# Altium schematic symbol library En.SCHLIB: 250 symbols (part 2 of 5)
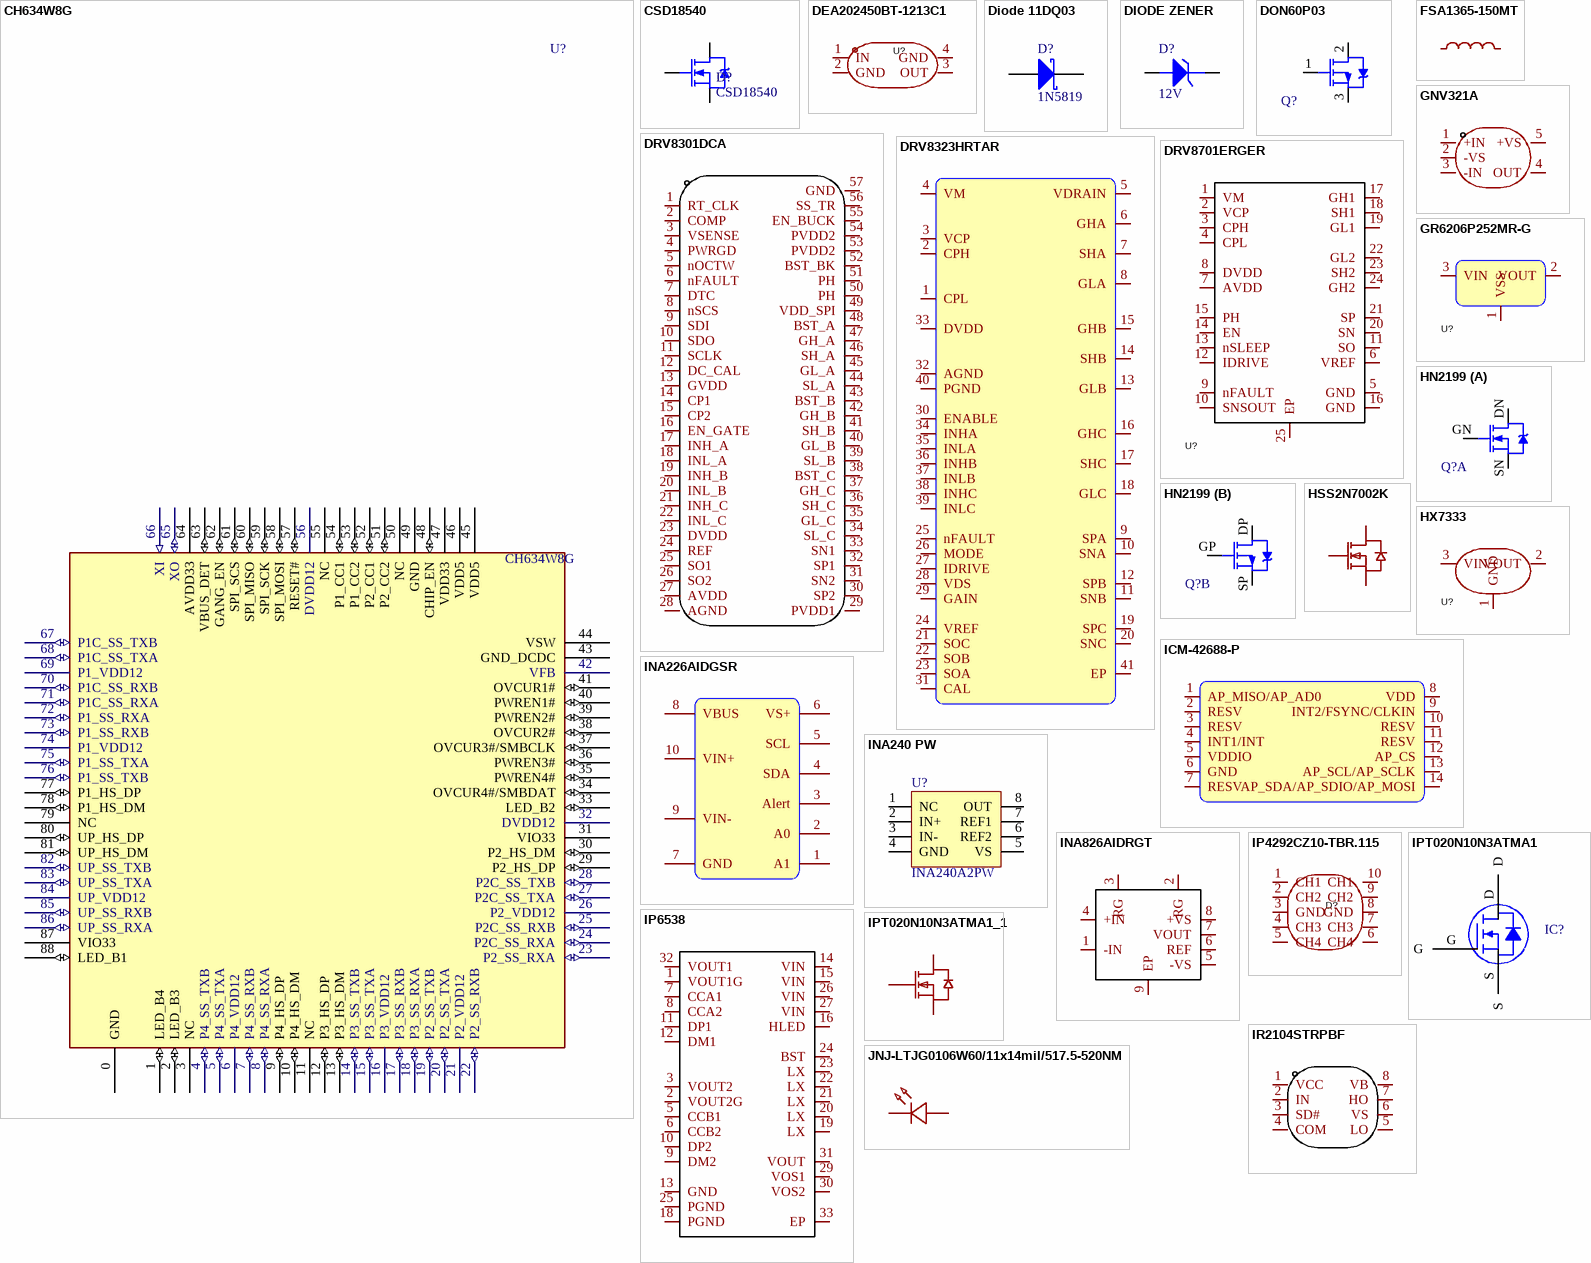
[diagram p20: symbols CH634W8G to JNJ-LTJG0106W60/11x14mil/517.5-520NM]

## IP4292CZ10-TBR.115
designator D?  (value not drawn)
4通道TVS，3.3V; Manufacturer: ElecSuper(静芯微); Add into BOM: yes; polarity: 单向; Reverse Stand-Off Voltage (Vrwm): 3.3V; Maximum Clamping Voltage: 5V; Peak Pulse Current (Ipp): 8A; Peak Pulse Power Dissipation (Ppp): 40W; Reverse Leakage Current (Ir): 100nA; Number of Lines: 四路; Type: ESD; Symbol: IP4292CZ10-TBR.115; Device: IP4292CZ10-TBR.115; LCSC Part Name: ESD/TVS 静电防护二极管; Supplier Part: C39832202; Manufacturer Part: IP4292CZ10-TBR.115; Supplier Footprint: DFN2510-10L; JLCPCB Part Class: Extended Part; Datasheet: https://atta.szlcsc.com/upload/public/pdf/source/20240807/15E28ED9AFBC6FFDA2C5CF98CAC988DA.pdf; Supplier: LCSC; Convert to PCB: yes
footprint DFN2510A-10_L2.5-W1.0-P0.50-BL
3D model DFN2510A-10_L2.5-W1.0-H0.5-P0.50-BL
pins: 1 CH1, 2 CH2, 3 GND, 4 CH3, 5 CH4, 6 CH4, 7 CH3, 8 GND, 9 CH2, 10 CH1

## IP6538
designator U?  (value not drawn)
Manufacturer: INJOINIC(英集芯); Add into BOM: yes; Symbol: IP6538; Device: IP6538; LCSC Part Name: IP6538; Supplier Part: C515679; Manufacturer Part: IP6538; Supplier Footprint: QFN-32-EP(5x5); JLCPCB Part Class: Extended Part; Datasheet: https://atta.szlcsc.com/upload/public/pdf/source/20200610/C515679_FB79CA4FD1661A0547DF6276FB7EE412.pdf; Supplier: LCSC; Convert to PCB: yes
footprint QFN-32_L5.0-W5.0-P0.50-BL-EP3.7
3D model QFN-32_L5.0-W5.0-H0.8-P0.50-BL-EP3.7
pins: 1 VOUT1G, 2 VOUT2G, 3 VOUT2, 5 CCB1, 6 CCB2, 7 CCA1, 8 CCA2, 9 DM2, 10 DP2, 11 DP1, 12 DM1, 13 GND, 14 VIN, 15 VIN, 16 HLED, 18 PGND, 19 LX, 20 LX, 21 LX, 22 LX, 23 LX, 24 BST, 25 PGND, 26 VIN, 27 VIN, 29 VOS1, 30 VOS2, 31 VOUT, 32 VOUT1, 33 EP

## IPT020N10N3ATMA1
designator IC?  (value not drawn)
N沟道MOSFET N-CH 100V 300A 8HSOF; Manufacturer: Infineon Technologies; Rds On (Max) at Id, Vgs: 2 mOhm @ 150A, 10V; Vgs(th) (Max) at Id: 3.5V @ 272uA; Gate Charge (Qg): 156nC @ 10V; Input Capacitance (Ciss) at Vds: 11200pF @ 50V; Power - Max: 375W; Current Continuous Drain: 300A (Tc); Part Number: IPT020N10N3ATMA1; PartId: 7970; Supplier 1: Digi-Key; Supplier Part Number 1: IPT020N10N3ATMA1TR-ND; ComponentLink1Description: Datasheet; ComponentLink1URL: http://www.infineon.com/dgdl/IPT020N10N3_Rev1.1.pdf?folderId=db3a304313b8b5a60113cee8763b02d7&fileId=db3a30433e9d5d11013e9e58035b0158; ComponentLink2Description: Digi-Key Listing; ComponentLink2URL: http://www.digikey.com/product-detail/en/IPT020N10N3ATMA1/IPT020N10N3ATMA1TR-ND/4571872; Price: 3.3442; Type: MOSFET N-Channel, Metal Oxide; Device Package: 8-PowerSFN; Drain to Source Voltage (Vdss): 100V; Features: Standard
footprint INFINEON PG-HSOF-8-1
pins: D, G, S

## IPT020N10N3ATMA1_1
designator Q?, comment IPT020N10N3ATMA1  (value not drawn)
Manufacturer: Infineon(英飞凌); Add into BOM: yes; Type: 1个N沟道; Drain Source Voltage (Vdss): 100V; Continuous Drain Current (Id): 300A; Drain Source On Resistance (RDS(on)@Vgs,Id): 2mΩ@10V,150A; Power Dissipation (Pd): 375W; Gate Threshold Voltage (Vgs(th)@Id): 3.5V@272uA; Total Gate Charge (Qg@Vgs): 207nC@10V; Input Capacitance (Ciss@Vds): 14.896nF@50V; Reverse Transfer Capacitance (Crss@Vds): 138pF@50V; Symbol: IPT020N10N3ATMA1; Device: IPT020N10N3ATMA1; LCSC Part Name: 1个N沟道 耐压:100V 电流:300A; Supplier Part: C6062371; Manufacturer Part: IPT020N10N3ATMA1; Supplier Footprint: HSOF-8; JLCPCB Part Class: Extended Part; Datasheet: https://atta.szlcsc.com/upload/public/pdf/source/20200522/C531201_F3EF8EA3E06D36D9999157C58619309F.pdf; Supplier: LCSC; Convert to PCB: yes; Operating Temperature: -55℃~+175℃
footprint PG-HSOF-8-1_L10.4-W9.9-P1.2-LS11.7-TL
3D model PG-HSOF-8-1_L10.4-W9.9-H2.3-P1.2-LS11.7-TL
pins: 1 G, 2 S, 3 D

## IR2104STRPBF
designator U?  (value not drawn)
栅极驱动器; Manufacturer: Infineon(英飞凌); Add into BOM: yes; Driven Configuration: 半桥; Load Type: MOSFET；IGBT; Number of Drivers: 2; Peak Output Current(sink): 360mA; Peak Output Current(source): 210mA; Supply Voltage: 10V~20V; Rise Time: 100ns; Fall Time: 50ns; Symbol: IR2104STRPBF; Device: IR2104STRPBF; Supplier: LCSC; Manufacturer Part: IR2104STRPBF; Supplier Part: C2960; JLCPCB Part Class: Extended Part; LCSC Part Name: IR2104STRPBF; Supplier Footprint: SOIC-8; Datasheet: https://atta.szlcsc.com/upload/public/pdf/source/20140906/1457707236579.pdf; Convert to PCB: yes; Operating Temperature: -40℃~+150℃@(Tj)
footprint SOIC-8_L4.9-W3.9-P1.27-LS6.0-BL
pins: 1 VCC, 2 IN, 3 SD#, 4 COM, 5 LO, 6 VS, 7 HO, 8 VB

## JNJ-LTJG0106W60/11x14mil/517.5-520NM
designator U?  (value not drawn)
Manufacturer: JNJ OPTOELECTRONICS(强生光电); Add into BOM: yes; Emitted Color: 绿色; Forward Voltage (VF): 2.8V~3.4V; Forward Current: 20mA; Dominant Wavelength: 520nm~530nm; Lens Color: 无色透明透镜; Luminous Intensity: 5300mcd; Viewing Angle: 60°; Symbol: JNJ-LTJG0106W60/11X14MIL/517.5-520NM; Device: JNJ-LTJG0106W60/11x14mil/517.5-520NM; LCSC Part Name: JNJ-LTJG0106W60/11x14mil/517.5-520NM; Supplier Part: C7500149; Manufacturer Part: JNJ-LTJG0106W60/11x14mil/517.5-520NM; Supplier Footprint: SMD2835; JLCPCB Part Class: Extended Part; Datasheet: https://atta.szlcsc.com/upload/public/pdf/source/20230914/95F7BDB426399AB30557EC122CC3B74E.pdf; Supplier: LCSC; Convert to PCB: yes; Operating Temperature: -40℃~+100℃
footprint LED-SMD_L3.5-W2.8-R-RD_GREEN-1
pins: 1 A, 2 K

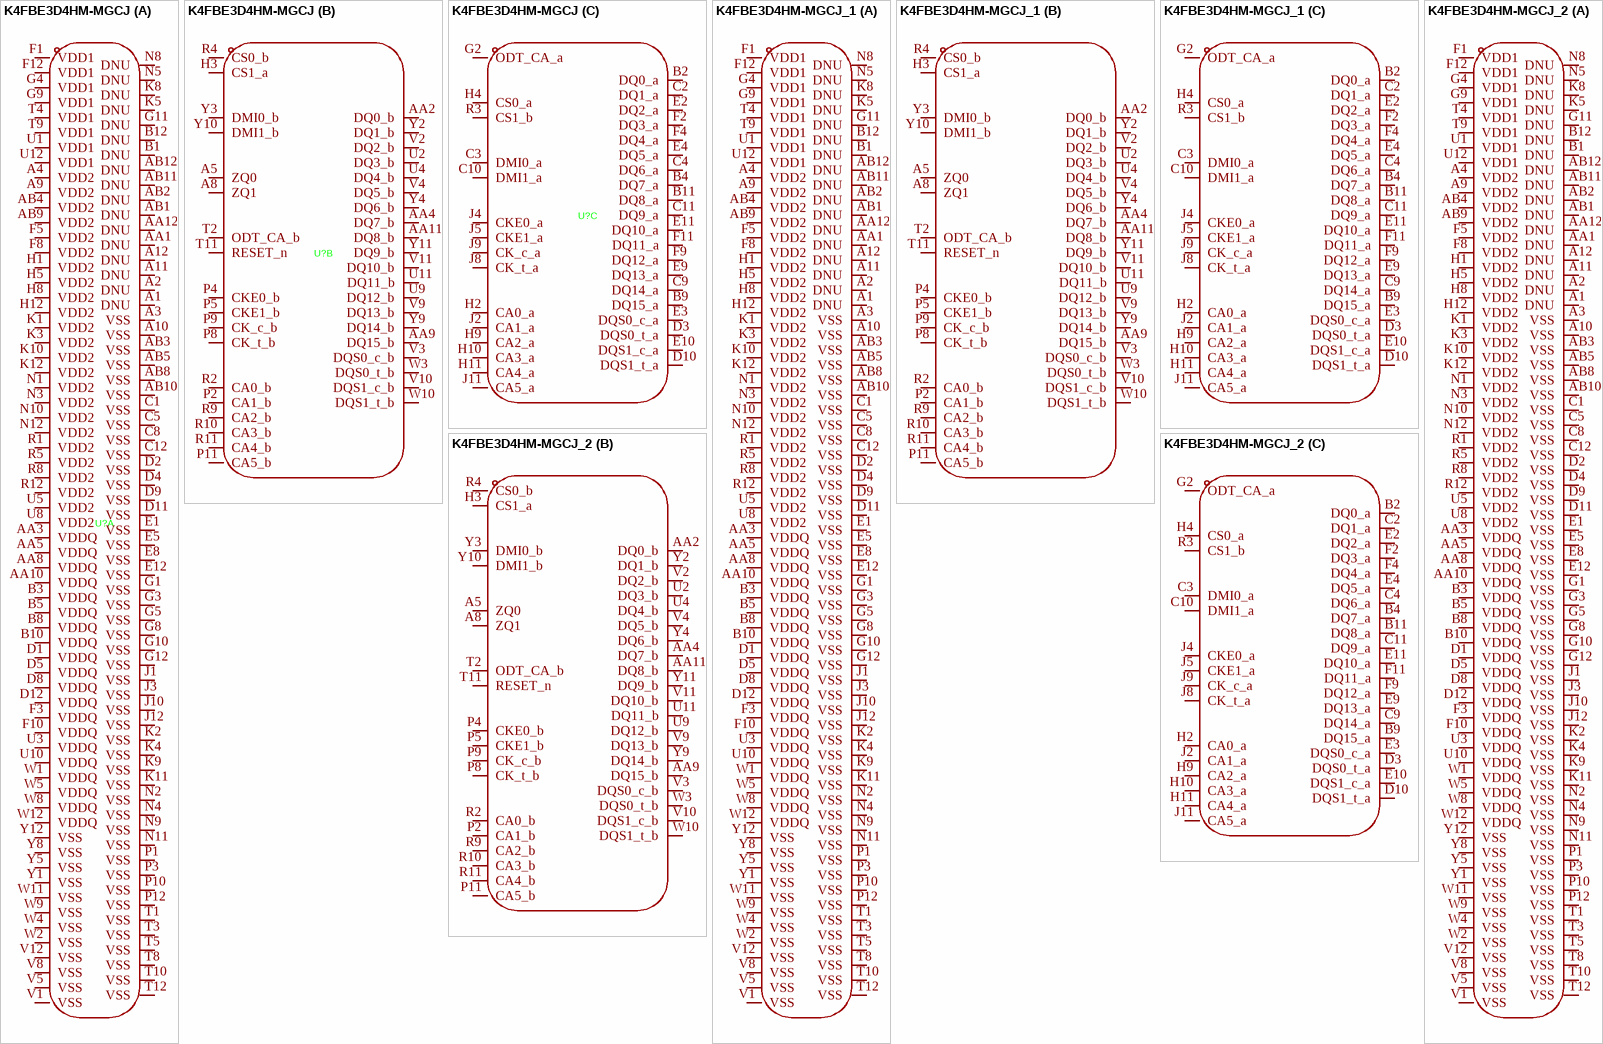
[diagram p3: symbols K4FBE3D4HM-MGCJ to K4FBE3D4HM-MGCJ_2]

## K4FBE3D4HM-MGCJ
designator U?  (value not drawn)
LPDDR4; Manufacturer: SAMSUNG(三星半导体); Add into BOM: yes; Symbol: K4FBE3D4HM-MGCJ; Device: K4FBE3D4HM-MGCJ; LCSC Part Name: K4FBE3D4HM-MGCJ; Supplier Part: C19188580; Manufacturer Part: K4FBE3D4HM-MGCJ; Supplier Footprint: BGA-200; JLCPCB Part Class: Extended Part; Datasheet: https://atta.szlcsc.com/upload/public/pdf/source/20231103/981B4612FCF3C7007EAF85DA2D47B66F.pdf; Supplier: LCSC; Convert to PCB: yes
footprint FBGA-200_L15.0-W10.0-BL_K4F6E3S4HM
3D model FBGA-200_L15.0-W10.0-BL_K4F6E3S4HM
part A pins: A1 DNU, A2 DNU, A3 VSS, A4 VDD2, A9 VDD2, A10 VSS, A11 DNU, A12 DNU, AA1 DNU, AA3 VDDQ, AA5 VDDQ, AA8 VDDQ, AA10 VDDQ, AA12 DNU, AB1 DNU, AB2 DNU, AB3 VSS, AB4 VDD2, AB5 VSS, AB8 VSS, AB9 VDD2, AB10 VSS, AB11 DNU, AB12 DNU, B1 DNU, B3 VDDQ, B5 VDDQ, B8 VDDQ, B10 VDDQ, B12 DNU, C1 VSS, C5 VSS, C8 VSS, C12 VSS, D1 VDDQ, D2 VSS, D4 VSS, D5 VDDQ, D8 VDDQ, D9 VSS, D11 VSS, D12 VDDQ, E1 VSS, E5 VSS, E8 VSS, E12 VSS, F1 VDD1, F3 VDDQ, F5 VDD2, F8 VDD2, F10 VDDQ, F12 VDD1, G1 VSS, G3 VSS, G4 VDD1, G5 VSS, G8 VSS, G9 VDD1, G10 VSS, G11 DNU, G12 VSS, H1 VDD2, H5 VDD2, H8 VDD2, H12 VDD2, J1 VSS, J3 VSS, J10 VSS, J12 VSS, K1 VDD2, K2 VSS, K3 VDD2, K4 VSS, K5 DNU, K8 DNU, K9 VSS, K10 VDD2, K11 VSS, K12 VDD2, N1 VDD2, N2 VSS, N3 VDD2, N4 VSS, N5 DNU, N8 DNU, N9 VSS, N10 VDD2, N11 VSS, N12 VDD2, P1 VSS, P3 VSS, P10 VSS, P12 VSS, R1 VDD2, R5 VDD2, R8 VDD2, R12 VDD2, T1 VSS, T3 VSS, T4 VDD1, T5 VSS, T8 VSS, T9 VDD1, T10 VSS, T12 VSS, U1 VDD1, U3 VDDQ, U5 VDD2, U8 VDD2, U10 VDDQ, U12 VDD1, V1 VSS, V5 VSS, V8 VSS, V12 VSS, W1 VDDQ, W2 VSS, W4 VSS, W5 VDDQ, W8 VDDQ, W9 VSS, W11 VSS, W12 VDDQ, Y1 VSS, Y5 VSS, Y8 VSS, Y12 VSS
part B pins: A5 ZQ0, A8 ZQ1, AA2 DQ0_b, AA4 DQ7_b, AA9 DQ15_b, AA11 DQ8_b, H3 CS1_a, P2 CA1_b, P4 CKE0_b, P5 CKE1_b, P8 CK_t_b, P9 CK_c_b, P11 CA5_b, R2 CA0_b, R4 CS0_b, R9 CA2_b, R10 CA3_b, R11 CA4_b, T2 ODT_CA_b, T11 RESET_n, U2 DQ3_b, U4 DQ4_b, U9 DQ12_b, U11 DQ11_b, V2 DQ2_b, V3 DQS0_c_b, V4 DQ5_b, V9 DQ13_b, V10 DQS1_c_b, V11 DQ10_b, W3 DQS0_t_b, W10 DQS1_t_b, Y2 DQ1_b, Y3 DMI0_b, Y4 DQ6_b, Y9 DQ14_b, Y10 DMI1_b, Y11 DQ9_b
part C pins: B2 DQ0_a, B4 DQ7_a, B9 DQ15_a, B11 DQ8_a, C2 DQ1_a, C3 DMI0_a, C4 DQ6_a, C9 DQ14_a, C10 DMI1_a, C11 DQ9_a, D3 DQS0_t_a, D10 DQS1_t_a, E2 DQ2_a, E3 DQS0_c_a, E4 DQ5_a, E9 DQ13_a, E10 DQS1_c_a, E11 DQ10_a, F2 DQ3_a, F4 DQ4_a, F9 DQ12_a, F11 DQ11_a, G2 ODT_CA_a, H2 CA0_a, H4 CS0_a, H9 CA2_a, H10 CA3_a, H11 CA4_a, J2 CA1_a, J4 CKE0_a, J5 CKE1_a, J8 CK_t_a, J9 CK_c_a, J11 CA5_a, R3 CS1_b

## K4FBE3D4HM-MGCJ_1
designator U?, comment K4FBE3D4HM-MGCJ  (value not drawn)
Manufacturer: SAMSUNG(三星半导体); Add into BOM: yes; Symbol: K4FBE3D4HM-MGCJ; Device: K4FBE3D4HM-MGCJ; LCSC Part Name: K4FBE3D4HM-MGCJ; Supplier Part: C19188580; Manufacturer Part: K4FBE3D4HM-MGCJ; Supplier Footprint: BGA-200; JLCPCB Part Class: Extended Part; Datasheet: https://atta.szlcsc.com/upload/public/pdf/source/20231103/981B4612FCF3C7007EAF85DA2D47B66F.pdf; Supplier: LCSC; Convert to PCB: yes
footprint FBGA-200_L15.0-W10.0-BL_K4F6E3S4HM
3D model FBGA-200_L15.0-W10.0-BL_K4F6E3S4HM
part A pins: A1 DNU, A2 DNU, A3 VSS, A4 VDD2, A9 VDD2, A10 VSS, A11 DNU, A12 DNU, AA1 DNU, AA3 VDDQ, AA5 VDDQ, AA8 VDDQ, AA10 VDDQ, AA12 DNU, AB1 DNU, AB2 DNU, AB3 VSS, AB4 VDD2, AB5 VSS, AB8 VSS, AB9 VDD2, AB10 VSS, AB11 DNU, AB12 DNU, B1 DNU, B3 VDDQ, B5 VDDQ, B8 VDDQ, B10 VDDQ, B12 DNU, C1 VSS, C5 VSS, C8 VSS, C12 VSS, D1 VDDQ, D2 VSS, D4 VSS, D5 VDDQ, D8 VDDQ, D9 VSS, D11 VSS, D12 VDDQ, E1 VSS, E5 VSS, E8 VSS, E12 VSS, F1 VDD1, F3 VDDQ, F5 VDD2, F8 VDD2, F10 VDDQ, F12 VDD1, G1 VSS, G3 VSS, G4 VDD1, G5 VSS, G8 VSS, G9 VDD1, G10 VSS, G11 DNU, G12 VSS, H1 VDD2, H5 VDD2, H8 VDD2, H12 VDD2, J1 VSS, J3 VSS, J10 VSS, J12 VSS, K1 VDD2, K2 VSS, K3 VDD2, K4 VSS, K5 DNU, K8 DNU, K9 VSS, K10 VDD2, K11 VSS, K12 VDD2, N1 VDD2, N2 VSS, N3 VDD2, N4 VSS, N5 DNU, N8 DNU, N9 VSS, N10 VDD2, N11 VSS, N12 VDD2, P1 VSS, P3 VSS, P10 VSS, P12 VSS, R1 VDD2, R5 VDD2, R8 VDD2, R12 VDD2, T1 VSS, T3 VSS, T4 VDD1, T5 VSS, T8 VSS, T9 VDD1, T10 VSS, T12 VSS, U1 VDD1, U3 VDDQ, U5 VDD2, U8 VDD2, U10 VDDQ, U12 VDD1, V1 VSS, V5 VSS, V8 VSS, V12 VSS, W1 VDDQ, W2 VSS, W4 VSS, W5 VDDQ, W8 VDDQ, W9 VSS, W11 VSS, W12 VDDQ, Y1 VSS, Y5 VSS, Y8 VSS, Y12 VSS
part B pins: A5 ZQ0, A8 ZQ1, AA2 DQ0_b, AA4 DQ7_b, AA9 DQ15_b, AA11 DQ8_b, H3 CS1_a, P2 CA1_b, P4 CKE0_b, P5 CKE1_b, P8 CK_t_b, P9 CK_c_b, P11 CA5_b, R2 CA0_b, R4 CS0_b, R9 CA2_b, R10 CA3_b, R11 CA4_b, T2 ODT_CA_b, T11 RESET_n, U2 DQ3_b, U4 DQ4_b, U9 DQ12_b, U11 DQ11_b, V2 DQ2_b, V3 DQS0_c_b, V4 DQ5_b, V9 DQ13_b, V10 DQS1_c_b, V11 DQ10_b, W3 DQS0_t_b, W10 DQS1_t_b, Y2 DQ1_b, Y3 DMI0_b, Y4 DQ6_b, Y9 DQ14_b, Y10 DMI1_b, Y11 DQ9_b
part C pins: B2 DQ0_a, B4 DQ7_a, B9 DQ15_a, B11 DQ8_a, C2 DQ1_a, C3 DMI0_a, C4 DQ6_a, C9 DQ14_a, C10 DMI1_a, C11 DQ9_a, D3 DQS0_t_a, D10 DQS1_t_a, E2 DQ2_a, E3 DQS0_c_a, E4 DQ5_a, E9 DQ13_a, E10 DQS1_c_a, E11 DQ10_a, F2 DQ3_a, F4 DQ4_a, F9 DQ12_a, F11 DQ11_a, G2 ODT_CA_a, H2 CA0_a, H4 CS0_a, H9 CA2_a, H10 CA3_a, H11 CA4_a, J2 CA1_a, J4 CKE0_a, J5 CKE1_a, J8 CK_t_a, J9 CK_c_a, J11 CA5_a, R3 CS1_b

## K4FBE3D4HM-MGCJ_2
designator U?, comment K4FBE3D4HM-MGCJ  (value not drawn)
Manufacturer: SAMSUNG(三星半导体); Add into BOM: yes; Symbol: K4FBE3D4HM-MGCJ; Device: K4FBE3D4HM-MGCJ; LCSC Part Name: K4FBE3D4HM-MGCJ; Supplier Part: C19188580; Manufacturer Part: K4FBE3D4HM-MGCJ; Supplier Footprint: BGA-200; JLCPCB Part Class: Extended Part; Datasheet: https://atta.szlcsc.com/upload/public/pdf/source/20231103/981B4612FCF3C7007EAF85DA2D47B66F.pdf; Supplier: LCSC; Convert to PCB: yes
footprint FBGA-200_L15.0-W10.0-BL_K4F6E3S4HM
3D model FBGA-200_L15.0-W10.0-BL_K4F6E3S4HM
part A pins: A1 DNU, A2 DNU, A3 VSS, A4 VDD2, A9 VDD2, A10 VSS, A11 DNU, A12 DNU, AA1 DNU, AA3 VDDQ, AA5 VDDQ, AA8 VDDQ, AA10 VDDQ, AA12 DNU, AB1 DNU, AB2 DNU, AB3 VSS, AB4 VDD2, AB5 VSS, AB8 VSS, AB9 VDD2, AB10 VSS, AB11 DNU, AB12 DNU, B1 DNU, B3 VDDQ, B5 VDDQ, B8 VDDQ, B10 VDDQ, B12 DNU, C1 VSS, C5 VSS, C8 VSS, C12 VSS, D1 VDDQ, D2 VSS, D4 VSS, D5 VDDQ, D8 VDDQ, D9 VSS, D11 VSS, D12 VDDQ, E1 VSS, E5 VSS, E8 VSS, E12 VSS, F1 VDD1, F3 VDDQ, F5 VDD2, F8 VDD2, F10 VDDQ, F12 VDD1, G1 VSS, G3 VSS, G4 VDD1, G5 VSS, G8 VSS, G9 VDD1, G10 VSS, G11 DNU, G12 VSS, H1 VDD2, H5 VDD2, H8 VDD2, H12 VDD2, J1 VSS, J3 VSS, J10 VSS, J12 VSS, K1 VDD2, K2 VSS, K3 VDD2, K4 VSS, K5 DNU, K8 DNU, K9 VSS, K10 VDD2, K11 VSS, K12 VDD2, N1 VDD2, N2 VSS, N3 VDD2, N4 VSS, N5 DNU, N8 DNU, N9 VSS, N10 VDD2, N11 VSS, N12 VDD2, P1 VSS, P3 VSS, P10 VSS, P12 VSS, R1 VDD2, R5 VDD2, R8 VDD2, R12 VDD2, T1 VSS, T3 VSS, T4 VDD1, T5 VSS, T8 VSS, T9 VDD1, T10 VSS, T12 VSS, U1 VDD1, U3 VDDQ, U5 VDD2, U8 VDD2, U10 VDDQ, U12 VDD1, V1 VSS, V5 VSS, V8 VSS, V12 VSS, W1 VDDQ, W2 VSS, W4 VSS, W5 VDDQ, W8 VDDQ, W9 VSS, W11 VSS, W12 VDDQ, Y1 VSS, Y5 VSS, Y8 VSS, Y12 VSS
part B pins: A5 ZQ0, A8 ZQ1, AA2 DQ0_b, AA4 DQ7_b, AA9 DQ15_b, AA11 DQ8_b, H3 CS1_a, P2 CA1_b, P4 CKE0_b, P5 CKE1_b, P8 CK_t_b, P9 CK_c_b, P11 CA5_b, R2 CA0_b, R4 CS0_b, R9 CA2_b, R10 CA3_b, R11 CA4_b, T2 ODT_CA_b, T11 RESET_n, U2 DQ3_b, U4 DQ4_b, U9 DQ12_b, U11 DQ11_b, V2 DQ2_b, V3 DQS0_c_b, V4 DQ5_b, V9 DQ13_b, V10 DQS1_c_b, V11 DQ10_b, W3 DQS0_t_b, W10 DQS1_t_b, Y2 DQ1_b, Y3 DMI0_b, Y4 DQ6_b, Y9 DQ14_b, Y10 DMI1_b, Y11 DQ9_b
part C pins: B2 DQ0_a, B4 DQ7_a, B9 DQ15_a, B11 DQ8_a, C2 DQ1_a, C3 DMI0_a, C4 DQ6_a, C9 DQ14_a, C10 DMI1_a, C11 DQ9_a, D3 DQS0_t_a, D10 DQS1_t_a, E2 DQ2_a, E3 DQS0_c_a, E4 DQ5_a, E9 DQ13_a, E10 DQS1_c_a, E11 DQ10_a, F2 DQ3_a, F4 DQ4_a, F9 DQ12_a, F11 DQ11_a, G2 ODT_CA_a, H2 CA0_a, H4 CS0_a, H9 CA2_a, H10 CA3_a, H11 CA4_a, J2 CA1_a, J4 CKE0_a, J5 CKE1_a, J8 CK_t_a, J9 CK_c_a, J11 CA5_a, R3 CS1_b

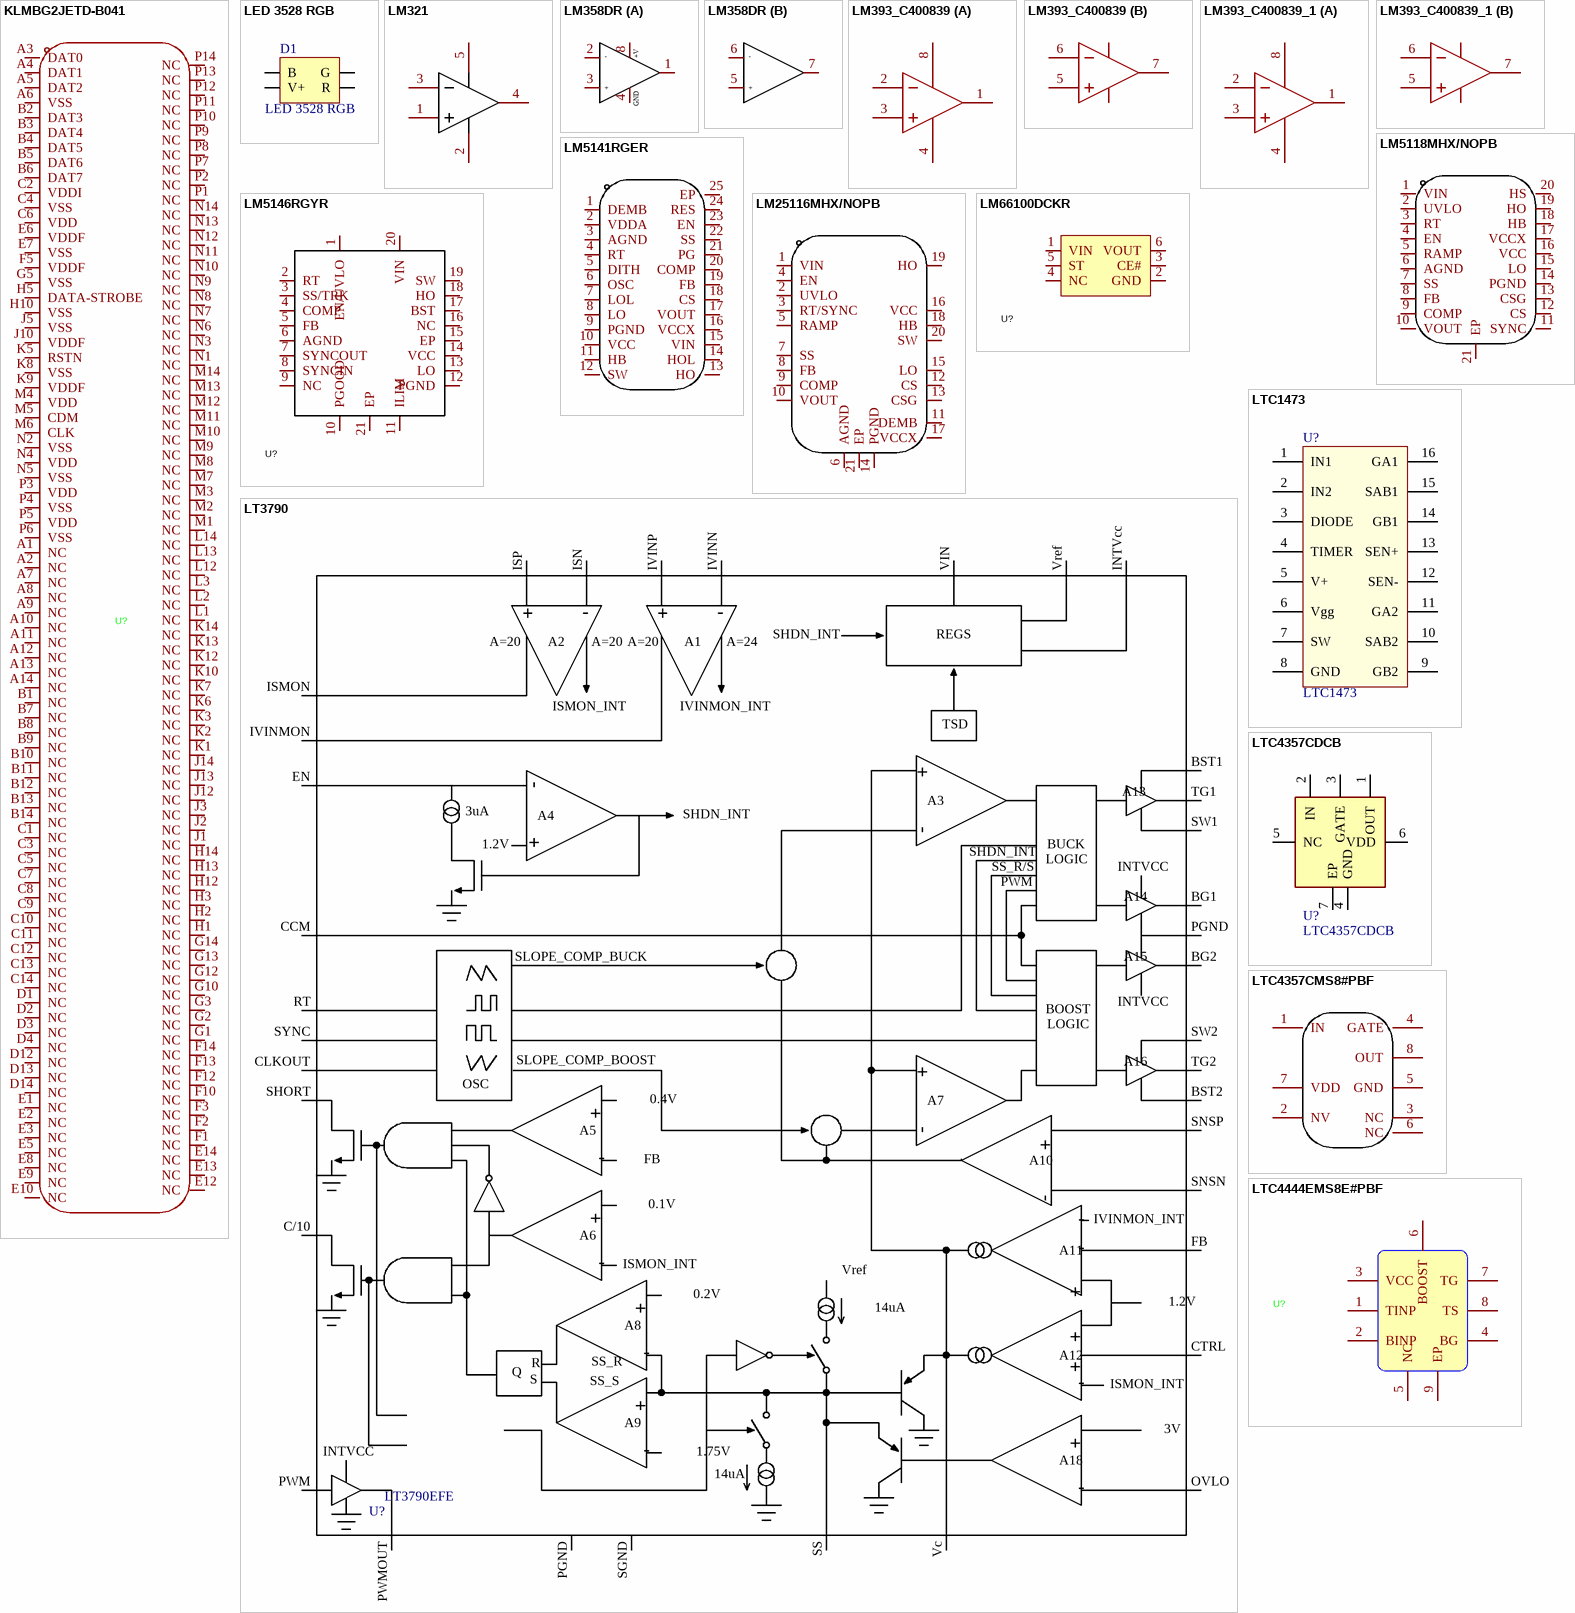
[diagram p4: symbols KLMBG2JETD-B041 to LTC4444EMS8E#PBF]

## KLMBG2JETD-B041
designator U?  (value not drawn)
eMMC; Manufacturer: SAMSUNG(三星半导体); Add into BOM: yes; Interface Type: eMMC 5.1; Supply Voltage: 2.7V~3.6V; Density: 32GB; Symbol: KLMBG2JETD-B041; Device: KLMBG2JETD-B041; LCSC Part Name: KLMBG2JETD-B041; Supplier Part: C2803245; Manufacturer Part: KLMBG2JETD-B041; Supplier Footprint: FBGA-153; JLCPCB Part Class: Extended Part; Datasheet: https://atta.szlcsc.com/upload/public/pdf/source/20210618/C2803245_EDBEBFDB4ACE4915FC1860DFF1382319.pdf; Supplier: LCSC; Convert to PCB: yes; configuration: -; Operating Temperature: -25℃~+85℃; Sequential Read/Write (MB/s): -
footprint FBGA-153_L13.0-W11.5-P0.50_KLMAG1JETD-B041
3D model FBGA-153_L13.0-W11.5-H1.1-P0.50_KLMAG1JETD-B041
pins: A1 NC, A2 NC, A3 DAT0, A4 DAT1, A5 DAT2, A6 VSS, A7 NC, A8 NC, A9 NC, A10 NC, A11 NC, A12 NC, A13 NC, A14 NC, B1 NC, B2 DAT3, B3 DAT4, B4 DAT5, B5 DAT6, B6 DAT7, B7 NC, B8 NC, B9 NC, B10 NC, B11 NC, B12 NC, B13 NC, B14 NC, C1 NC, C2 VDDI, C3 NC, C4 VSS, C5 NC, C6 VDD, C7 NC, C8 NC, C9 NC, C10 NC, C11 NC, C12 NC, C13 NC, C14 NC, D1 NC, D2 NC, D3 NC, D4 NC, D12 NC, D13 NC, D14 NC, E1 NC, E2 NC, E3 NC, E5 NC, E6 VDDF, E7 VSS, E8 NC, E9 NC, E10 NC, E12 NC, E13 NC, E14 NC, F1 NC, F2 NC, F3 NC, F5 VDDF, F10 NC, F12 NC, F13 NC, F14 NC, G1 NC, G2 NC, G3 NC, G5 VSS, G10 NC, G12 NC, G13 NC, G14 NC, H1 NC, H2 NC, H3 NC, H5 DATA-STROBE, H10 VSS, H12 NC, H13 NC, H14 NC, J1 NC, J2 NC, J3 NC, J5 VSS, J10 VDDF, J12 NC, J13 NC, J14 NC, K1 NC, K2 NC, K3 NC, K5 RSTN, K6 NC, K7 NC, K8 VSS, K9 VDDF, K10 NC, K12 NC, K13 NC, K14 NC, L1 NC, L2 NC, L3 NC, L12 NC, L13 NC, L14 NC, M1 NC, M2 NC, M3 NC, M4 VDD, M5 CDM, M6 CLK, M7 NC, M8 NC, M9 NC, M10 NC, M11 NC, M12 NC, M13 NC, M14 NC, N1 NC, N2 VSS, N3 NC, N4 VDD, N5 VSS, N6 NC, N7 NC, N8 NC, N9 NC, N10 NC, N11 NC, N12 NC, N13 NC, N14 NC, P1 NC, P2 NC, P3 VDD, P4 VSS, P5 VDD, P6 VSS, P7 NC, P8 NC, P9 NC, P10 NC, P11 NC, P12 NC, P13 NC, P14 NC

## LED 3528 RGB
designator D1
3528 RGB LED
footprint LED 3528 4PIN
pins: 1 R (oc), 2 V+ (oc), 3 B (oc), 4 G (oc)

## LM321
designator U?  (value not drawn)
单通道运放; Manufacturer: MSKSEMI(美森科); Symbol: LM321_C5252901; Add into BOM: yes; Number of Circuits: 单路; Gain Bandwidth Product(GBP): 1.2MHz; Current - Input Bias(Ib): 50nA; Voltage - Input Offset(Vos): 5mV; Common Mode Rejection Ratio (CMRR): 80dB; Supply Voltage: 3V~36V; Output Type: 差分; Device: LM321_C5252901; Supplier: LCSC; Supplier Part: C5252901; Manufacturer Part: LM321; JLCPCB Part Class: Extended Part; LCSC Part Name: 增益带宽(GBP)1.2MHZ VIO:5mV LM321 丝印A63A; Supplier Footprint: SOT-23-5; Datasheet: https://atta.szlcsc.com/upload/public/pdf/source/20221111/09391BEFB737B52DE47367D309476179.pdf; Convert to PCB: yes; -3db Bandwidth: 1.2MHz; Operating Temperature: 0℃~+70℃
footprint SOT-23-5_L3.0-W1.7-P0.95-LS2.8-BR
pins: 1 IN+, 2 V-, 3 IN-, 4 OUT, 5 V+

## LM358DR
designator U?  (value not drawn)
双通道运放; Manufacturer: TI(德州仪器); Add into BOM: yes; Number of Circuits: 双路; Gain Bandwidth Product(GBP): 700kHz; Current - Input Bias(Ib): 20nA; Slew Rate(SR): 0.3V/us; Output Current: 40mA; Supply Current: 1mA; Symbol: LM358DR; Device: LM358DR; LCSC Part Name: 行业标准双路运算放大器; Supplier Part: C5423; Manufacturer Part: LM358DR; Supplier Footprint: SOIC-8; JLCPCB Part Class: Extended Part; Datasheet: https://www.ti.com/cn/lit/gpn/lm358; Supplier: LCSC; Convert to PCB: yes; -3db Bandwidth: -; Operating Temperature: 0℃~+70℃
footprint SOIC-8_L5.0-W4.0-P1.27-LS6.0-BL
part A pins: 1 OUT1, 2 -IN1, 3 +IN1, 4 GND, 8 +V
part B pins: 5 +IN2, 6 -IN2, 7 OUT2
part A text: +
part B text: +

## LM393_C400839
designator U?, comment LM393  (value not drawn)
Manufacturer: IDCHIP(英锐芯); Symbol: LM393_C400839; Add into BOM: yes; Input Offset Voltage (Vos): 3mV; Supply Voltage: 24V; Supply Current: 2.5mA; Device: LM393_C400839; LCSC Part Name: LM393; Supplier Part: C400839; Manufacturer Part: LM393; Supplier Footprint: SOP-8; JLCPCB Part Class: Extended Part; Datasheet: https://atta.szlcsc.com/upload/public/pdf/source/20240308/5ED8EE163AE67417F731F81F7E9D3786.pdf; Supplier: LCSC; Convert to PCB: yes; Input Bias Current (Ib): -; Propagation Delay Time: -; Input Hysteresis Voltage (Vhys): -; Common Mode Rejection Ratio (CMRR): -; Output Type: -; Output Mode: -; Rail-to-Rail: -; Operating Temperature: -
footprint SOIC-8_L4.9-W3.9-P1.27-LS6.0-BL
part A pins: 1 OUTA, 2 INA-, 3 INA+, 4 GND, 8 VCC
part B pins: 5 INB+, 6 INB-, 7 OUTB

## LM393_C400839_1
designator U?, comment LM393  (value not drawn)
Manufacturer: IDCHIP(英锐芯); Symbol: LM393_C400839; Add into BOM: yes; Input Offset Voltage (Vos): 3mV; Supply Voltage: 24V; Supply Current: 2.5mA; Device: LM393_C400839; LCSC Part Name: LM393; Supplier Part: C400839; Manufacturer Part: LM393; Supplier Footprint: SOP-8; JLCPCB Part Class: Extended Part; Datasheet: https://atta.szlcsc.com/upload/public/pdf/source/20240308/5ED8EE163AE67417F731F81F7E9D3786.pdf; Supplier: LCSC; Convert to PCB: yes; Input Bias Current (Ib): -; Propagation Delay Time: -; Input Hysteresis Voltage (Vhys): -; Common Mode Rejection Ratio (CMRR): -; Output Type: -; Output Mode: -; Rail-to-Rail: -; Operating Temperature: -
footprint SOP-8_L4.9-W3.9-P1.27-LS6.0-BL
3D model SOP-8_L4.9-W3.9-P1.27-LS6.0-BL-1
part A pins: 1 OUTA, 2 INA-, 3 INA+, 4 GND, 8 VCC
part B pins: 5 INB+, 6 INB-, 7 OUTB

## LM5118MHX/NOPB
designator U?  (value not drawn)
DC-DC BUCK-BOOST芯片; Manufacturer: TI(德州仪器); Add into BOM: yes; Function: 降压型；升降压型; Input Voltage: 3V~75V; Switching Frequency: 515kHz；200kHz; Synchronous Rectification: 否; Number of Outputs: 1; Topology: 降压式；降压-升压式; Symbol: LM5118MHX/NOPB; Device: LM5118MHX/NOPB; Supplier: LCSC; Manufacturer Part: LM5118MHX/NOPB; Supplier Part: C55878; JLCPCB Part Class: Extended Part; LCSC Part Name: LM5118MHX/NOPB; Supplier Footprint: TSSOP-20-EP; Datasheet: https://www.ti.com/cn/lit/gpn/lm5118; Convert to PCB: yes; Operating Temperature: -40℃~+125℃@(TJ)
footprint HTSSOP-20_L6.5-W4.4-P0.65-LS6.4-BL-EP
pins: 1 VIN, 2 UVLO, 3 RT, 4 EN, 5 RAMP, 6 AGND, 7 SS, 8 FB, 9 COMP, 10 VOUT, 11 SYNC, 12 CS, 13 CSG, 14 PGND, 15 LO, 16 VCC, 17 VCCX, 18 HB, 19 HO, 20 HS, 21 EP

## LM5141RGER
designator U?  (value not drawn)
Manufacturer: TI(德州仪器); Add into BOM: yes; Function: 降压型; Input Voltage: 3.8V~65V; Switching Frequency: 440kHz；2.2MHz; Synchronous Rectification: 否; Number of Outputs: 1; Topology: 降压式; Switch tube (built-in/external): 外置; Symbol: LM5141RGER; Device: LM5141RGER; LCSC Part Name: LM5141RGER; Supplier Part: C2658020; Manufacturer Part: LM5141RGER; Supplier Footprint: VQFN-24-EP(4x4); JLCPCB Part Class: Extended Part; Datasheet: https://www.ti.com/cn/lit/gpn/lm5141; Supplier: LCSC; Convert to PCB: yes; Operating Temperature: -40℃~+150℃@(TJ)
footprint VQFN-24_L4.0-W4.0-P0.50-TL-EP2.5
3D model VQFN-24_L4.0-W4.0-P0.50-TL-EP2.5
pins: 1 DEMB, 2 VDDA, 3 AGND, 4 RT, 5 DITH, 6 OSC, 7 LOL, 8 LO, 9 PGND, 10 VCC, 11 HB, 12 SW, 13 HO, 14 HOL, 15 VIN, 16 VCCX, 17 VOUT, 18 CS, 19 FB, 20 COMP, 21 PG, 22 SS, 23 EN, 24 RES, 25 EP

## LM5146RGYR
designator U?  (value not drawn)
Manufacturer: TI(德州仪器); Add into BOM: yes; Function: 降压型; Input Voltage: 5.5V~100V; Switching Frequency: 1MHz; Synchronous Rectification: 是; Number of Outputs: 1; Topology: 降压式; Switch tube (built-in/external): 外置; Symbol: LM5146RGYR; Device: LM5146RGYR; LCSC Part Name: LM5146RGYR; Supplier Part: C3188679; Manufacturer Part: LM5146RGYR; Supplier Footprint: VQFN-20(3.5x4.5); JLCPCB Part Class: Extended Part; Datasheet: https://www.ti.com/cn/lit/gpn/lm5146; Supplier: LCSC; Convert to PCB: yes; Operating Temperature: -40℃~+150℃@(TJ)
footprint VQFN-20_L4.5-W3.5-P0.50-BL-EP
3D model VQFN-20_L4.5-W3.5-H1.0-P0.50-BL-EP
pins: 1 EN/UVLO, 2 RT, 3 SS/TRK, 4 COMP, 5 FB, 6 AGND, 7 SYNCOUT, 8 SYNCIN, 9 NC, 10 PGOOD, 11 ILIM, 12 PGND, 13 LO, 14 VCC, 15 EP, 16 NC, 17 BST, 18 HO, 19 SW, 20 VIN, 21 EP

## LM25116MHX/NOPB
designator U?  (value not drawn)
Manufacturer: TI(德州仪器); Add into BOM: yes; Function: 降压型; Input Voltage: 6V~42V; Switching Frequency: 1MHz; Synchronous Rectification: 是; Number of Outputs: 1; Topology: 降压式; Switch tube (built-in/external): 外置; Symbol: LM25116MHX/NOPB; Device: LM25116MHX/NOPB; LCSC Part Name: LM25116MHX/NOPB; Supplier Part: C390951; Manufacturer Part: LM25116MHX/NOPB; Supplier Footprint: HTSSOP-20-EP; JLCPCB Part Class: Extended Part; Datasheet: https://www.ti.com/cn/lit/gpn/lm25116; Supplier: LCSC; Convert to PCB: yes; Operating Temperature: -40℃~+125℃@(TJ)
footprint HTSSOP-20_L6.5-W4.4-P0.65-LS6.4-BL-EP
3D model HTSSOP-20_L6.5-W4.4-H1.2-LS6.4-P0.65
pins: 1 VIN, 2 UVLO, 3 RT/SYNC, 4 EN, 5 RAMP, 6 AGND, 7 SS, 8 FB, 9 COMP, 10 VOUT, 11 DEMB, 12 CS, 13 CSG, 14 PGND, 15 LO, 16 VCC, 17 VCCX, 18 HB, 19 HO, 20 SW, 21 EP

## LM66100DCKR
designator U?  (value not drawn)
理想二极管; Manufacturer: TI(德州仪器); Device: LM66100DCKR_C2869734; Add into BOM: yes; Number of Outputs: 1; Control Input Logic: 低电平有效; Output Current: 1.5A; Input Voltage: 1.5V~5.5V; Resistor On-State: 79mΩ; Symbol: LM66100DCKR; LCSC Part Name: 5.5V 1.5A 低静态电流理想二极管; Supplier Part: C2869734; Manufacturer Part: LM66100DCKR; Supplier Footprint: SC-70-6; JLCPCB Part Class: Extended Part; Datasheet: https://www.ti.com/cn/lit/gpn/lm66100; Supplier: LCSC; Convert to PCB: yes; Switch Type: 理想二极管; Operating Temperature	-: -40℃~+125℃
footprint SC-70-6_L2.0-W1.3-P0.65-LS2.1-BL
3D model SC-70-6_L2.0-W1.3-P0.65-LS2.1-BL
pins: 1 VIN, 2 GND, 3 CE#, 4 NC, 5 ST, 6 VOUT

## LT3790
designator U?, comment LT3790EFE
DC-DC BUCK-BOOST芯片
footprint TSSOP38
pins: BG1, BG2, BST1, BST2, C/10, CCM, CLKOUT, CTRL, EN, FB, INTVcc, ISMON, ISN, ISP, IVINMON, IVINN, IVINP, OVLO, PGND, PGND, PWM, PWMOUT, RT, SGND, SHORT, SNSN, SNSP, SS, SW1, SW2, SYNC, TG1, TG2, Vc, VIN, Vref
text: -; +; SHDN_INT; REGS; A=20; A2; A1; A=24; ISMON_INT; IVINMON_INT; TSD; A13; A3; 3uA; A4; 1.2V; BUCK; LOGIC; SS_R/S; INTVCC; A14; SLOPE_COMP_BUCK; A15; BOOST; SLOPE_COMP_BOOST; A16; OSC; 0.4V; A7; A5; A10; 0.1V; A6; A11; 0.2V; 14uA; A8; A12; R; SS_R; Q; S; SS_S; A9; 3V; 1.75V; A18

## LTC1473
designator U?
功率电子开关
footprint 16P 0.635mm SSOP
pins: 1 IN1, 2 IN2, 3 DIODE, 4 TIMER, 5 V+, 6 Vgg, 7 SW, 8 GND, 9 GB2, 10 SAB2, 11 GA2, 12 SEN-, 13 SEN+, 14 GB1, 15 SAB1, 16 GA1

## LTC4357CDCB
designator U?
功率电子开关
footprint DFN-6_2x3_0.5
pins: 1 OUT, 2 IN, 3 GATE, 4 GND, 5 NC, 6 VDD, 7 EP

## LTC4357CMS8#PBF
designator U?  (value not drawn)
功率电子开关; Manufacturer: ADI(亚德诺); Add into BOM: yes; Input Voltage: 9V~80V; Symbol: LTC4357CMS8#PBF; Device: LTC4357CMS8#PBF; LCSC Part Name: LTC4357CMS8#PBF; Supplier Part: C107961; Manufacturer Part: LTC4357CMS8#PBF; Supplier Footprint: MSOP-8; JLCPCB Part Class: Extended Part; Datasheet: https://atta.szlcsc.com/upload/public/pdf/source/20170413/1492062869392.pdf; Supplier: LCSC; Convert to PCB: yes; Operating Temperature	-: 0℃~+70℃
footprint MSOP-8_L3.0-W3.0-P0.65-LS4.9-BL
pins: 1 IN, 2 NV, 3 NC, 4 GATE, 5 GND, 6 NC, 7 VDD, 8 OUT

## LTC4444EMS8E#PBF
designator U?  (value not drawn)
栅极驱动器; Manufacturer: ADI(亚德诺); Add into BOM: yes; Driven Configuration: 半桥; Load Type: MOSFET; Number of Drivers: 2; Peak Output Current(sink): 3A; Peak Output Current(source): 2.5A; Supply Voltage: 7.2V~13.5V; Rise Time: 8ns; Fall Time: 5ns; Symbol: LTC4444EMS8E#PBF; Device: LTC4444EMS8E#PBF; LCSC Part Name: 高电压同步 N 沟道 MOSFET 驱动器; Supplier Part: C107974; Manufacturer Part: LTC4444EMS8E#PBF; Supplier Footprint: MSOP-8-EP; JLCPCB Part Class: Extended Part; Datasheet: https://atta.szlcsc.com/upload/public/pdf/source/20170413/1492062873617.pdf; Supplier: LCSC; Convert to PCB: yes; Operating Temperature: -40℃~+125℃@(Tj)
footprint MSOP-8_L3.0-W3.0-P0.65-LS5.0-BL-EP
3D model MSOP-8_L3.0-W3.0-P0.65-LS5.0-BR-EP
pins: 1 TINP, 2 BINP, 3 VCC, 4 BG, 5 NC, 6 BOOST, 7 TG, 8 TS, 9 EP

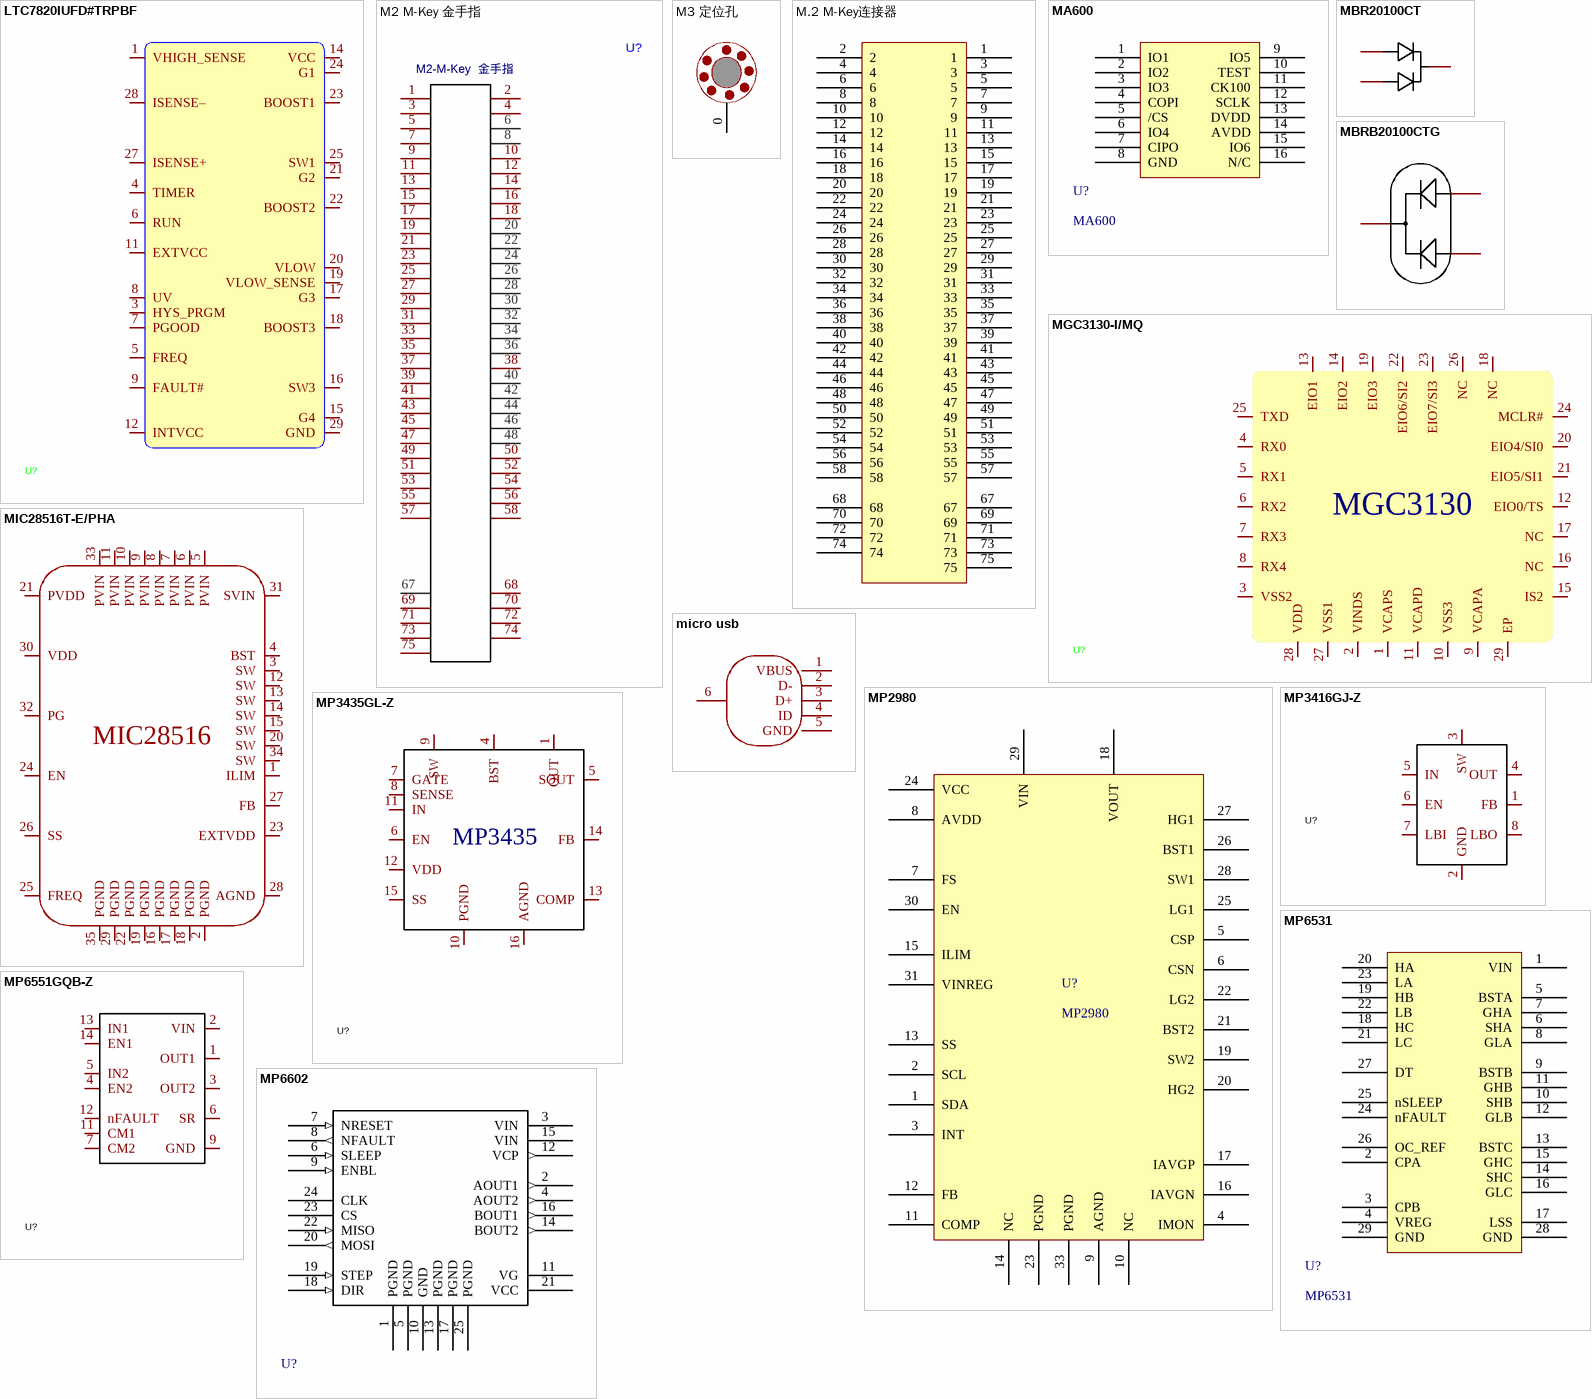
[diagram p5: symbols LTC7820IUFD#TRPBF to MP6602]

## LTC7820IUFD#TRPBF
designator U?  (value not drawn)
Manufacturer: ADI(亚德诺); Add into BOM: yes; Input Voltage: 6V~72V; Switching Frequency: 100kHz~1MHz; Synchronous Rectification: 否; Number of Outputs: 1; Switch tube (built-in/external): 外置; Symbol: LTC7820IUFD#TRPBF; Device: LTC7820IUFD#TRPBF; LCSC Part Name: 高效率非隔离中间总线转换器; Supplier Part: C690244; Manufacturer Part: LTC7820IUFD#TRPBF; Supplier Footprint: QFN-28-EP(4x5); JLCPCB Part Class: Extended Part; Datasheet: https://atta.szlcsc.com/upload/public/pdf/source/20210527/C690244_405FC637E178150A18F1B63D64F3DC46.pdf; Supplier: LCSC; Convert to PCB: yes; Function: -; Output Type: -; Output Voltage: -; Output Current: -; Operating Temperature: -40℃~+125℃; Topology: -; Quiescent Current (Iq): -
footprint QFN-28_L5.0-W4.0-P0.50-TL-EP-1
3D model QFN-28_L5.0-W4.0-P0.50-TL-EP-1
pins: 1 VHIGH_SENSE, 3 HYS_PRGM, 4 TIMER, 5 FREQ, 6 RUN, 7 PGOOD, 8 UV, 9 FAULT#, 11 EXTVCC, 12 INTVCC, 14 VCC, 15 G4, 16 SW3, 17 G3, 18 BOOST3, 19 VLOW_SENSE, 20 VLOW, 21 G2, 22 BOOST2, 23 BOOST1, 24 G1, 25 SW1, 27 ISENSE+, 28 ISENSE–, 29 GND

## M2 M-Key 金手指
designator U?
footprint M.2-M Key
pins: 1 CONFIG_3, 2 3.3V, 3 GND, 4 3.3V, 5 GND, 6 N/C, 7 N/C, 8 N/C, 9 N/C, 10 DAS/DSS #, 11 GND, 12 3.3V, 13 N/C, 14 3.3V, 15 N/C, 16 3.3V, 17 N/C, 18 3.3V, 19 N/C, 20 N/C, 21 CONFIG_0, 22 N/C, 23 Reserved, 24 N/C, 25 Reserved, 26 N/C, 27 GND, 28 N/C, 29 PETn1, 30 N/C, 31 PETp1, 32 N/C, 33 GND, 34 N/C, 35 PERn1, 36 N/C, 37 PERp1, 38 DEVSLP, 39 GND, 40 N/C, 41 PETn0, 42 N/C, 43 PETp0, 44 N/C, 45 GND, 46 N/C, 47 PERn0, 48 N/C, 49 PERp0, 50 PERST #, 51 GND, 52 CLKREQ #, 53 REFCLKN, 54 PEWake #, 55 REFCLKP, 56 Reserved / MFG Data, 57 GND, 58 Reserved / MFG Clock, 67 N/C, 68 SUSCLK(32kHz), 69 CONFIG_1, 70 3.3V, 71 GND, 72 3.3V, 73 GND, 74 3.3V, 75 CONFIG_2
text: M2-M-Key  金手指

## M3 定位孔
designator P2  (value not drawn)
footprint VIA-3mm
pins: 0 GND

## M.2 M-Key连接器
designator ?, comment M.2_M_key_F  (value not drawn)
footprint M.2_M_key_F(H=8.5mm) (PCIe M.2 Connectors, Storage and Server Connector, P=0.5mm, H=8.5mm, Key M)
pins: 1, 2, 3, 4, 5, 6, 7, 8, 9, 10, 11, 12, 13, 14, 15, 16, 17, 18, 19, 20, 21, 22, 23, 24, 25, 26, 27, 28, 29, 30, 31, 32, 33, 34, 35, 36, 37, 38, 39, 40, 41, 42, 43, 44, 45, 46, 47, 48, 49, 50, 51, 52, 53, 54, 55, 56, 57, 58, 67, 68, 69, 70, 71, 72, 73, 74, 75

## MA600
designator U?
磁编码器
footprint qfn-16-l3.0-w3.0-p0.50-tl-ep1.7
pins: 1 IO1, 2 IO2, 3 IO3, 4 COPI, 5 /CS, 6 IO4, 7 CIPO, 8 GND, 9 IO5, 10 TEST, 11 CK100, 12 SCLK, 13 DVDD, 14 AVDD, 15 IO6, 16 N/C

## MBR20100CT
designator D?  (value not drawn)
共阴极直插双二极管; Manufacturer: MDD; Symbol: MBR20100CT_C173465; Add into BOM: yes; Forward Voltage (Vf@If): 850mV@10A; Reverse Voltage (Vr): 100V; Average Rectified Current (Io): 10A; Device: MBR20100CT_C173465; Supplier: LCSC; Supplier Part: C173465; Manufacturer Part: MBR20100CT; JLCPCB Part Class: Extended Part; LCSC Part Name: 电压:100V 电流:10A; Supplier Footprint: TO-220AB-3; Datasheet: https://atta.szlcsc.com/upload/public/pdf/source/20230823/019C3101C6749BCDCCD7AF8DE8E356AE.pdf; Convert to PCB: yes
footprint TO-220AB-3_L10.4-W4.6-P2.54-T
pins: 1 A, 2 C, 3 A

## MBRB20100CTG
designator D?  (value not drawn)
功率二极管; Manufacturer: onsemi(安森美); Add into BOM: yes; Diode Configuration: 1对共阴极; Forward Voltage (Vf@If): 850mV@35A; Reverse Voltage (Vr): 100V; Average Rectified Current (Io): 10A; Reverse Leakage Current: 100uA@100V; Symbol: MBRB20100CTG; Device: MBRB20100CTG; Supplier: LCSC; Manufacturer Part: MBRB20100CTG; Supplier Part: C90225; JLCPCB Part Class: Extended Part; LCSC Part Name: 电压:100V 电流:10A; Supplier Footprint: D2PAK; Datasheet: https://atta.szlcsc.com/upload/public/pdf/source/20171014/C92093_15079757884501038571.PDF; Convert to PCB: yes; Power Dissipation: -; Reverse Recovery Time (trr): -; Operating Temperature: -65℃~+175℃@(Tj)
footprint TO-263-2_L10.0-W9.1-P5.08-LS15.2-BR
pins: 1, 3, 4

## MGC3130-I/MQ
designator U?  (value not drawn)
电场传感器; Manufacturer: MICROCHIP(美国微芯); Add into BOM: yes; Symbol: MGC3130-I/MQ; Device: MGC3130-I/MQ; LCSC Part Name: MGC3130-I/MQ; Supplier Part: C512194; Manufacturer Part: MGC3130-I/MQ; Supplier Footprint: QFN-28-EP(5x5); JLCPCB Part Class: Extended Part; Datasheet: https://atta.szlcsc.com/upload/public/pdf/source/20200413/C512194_23B186B1FC72104BFBFAAE77C56BA81C.pdf; Supplier: LCSC; Convert to PCB: yes
footprint QFN-28_L5.0-W5.0-P0.50-BL-EP
3D model TQFN-28_L5.0-W5.0-H0.8-P0.50
pins: 1 VCAPS, 2 VINDS, 3 VSS2, 4 RX0, 5 RX1, 6 RX2, 7 RX3, 8 RX4, 9 VCAPA, 10 VSS3, 11 VCAPD, 12 EIO0/TS, 13 EIO1, 14 EIO2, 15 IS2, 16 NC, 17 NC, 18 NC, 19 EIO3, 20 EIO4/SI0, 21 EIO5/SI1, 22 EIO6/SI2, 23 EIO7/SI3, 24 MCLR#, 25 TXD, 26 NC, 27 VSS1, 28 VDD, 29 EP
text: MGC3130

## MIC28516T-E/PHA
designator U?  (value not drawn)
Manufacturer: MICROCHIP(美国微芯); Add into BOM: yes; Function: 降压型; Output Type: 可调; Input Voltage: 4.5V~70V; Output Voltage: 600mV~32V; Output Current (Max): 8A; Switching Frequency: 800kHz; Synchronous Rectification: 是; Number of Outputs: 1; Topology: 降压式; Switch tube (built-in/external): 内置; Symbol: MIC28516T-E/PHA; Device: MIC28516T-E/PHA; LCSC Part Name: MIC28516T-E/PHA; Supplier Part: C623942; Manufacturer Part: MIC28516T-E/PHA; Supplier Footprint: VQFN-32-EP(6x6); JLCPCB Part Class: Extended Part; Datasheet: https://atta.szlcsc.com/upload/public/pdf/source/20221017/C1D171D455CD6BE8225348A688198F53.pdf; Supplier: LCSC; Convert to PCB: yes; Operating Temperature: -40℃~+125℃@(TJ)
footprint VQFN-32_L6.0-W6.0-P0.65-BL-EP_MIC28514T-E-PHA
3D model VQFN-32_L6.0-W6.0-P0.65-BL-EP_MIC28514T-E-PHA
pins: 1 ILIM, 2 PGND, 3 SW, 4 BST, 5 PVIN, 6 PVIN, 7 PVIN, 8 PVIN, 9 PVIN, 10 PVIN, 11 PVIN, 12 SW, 13 SW, 14 SW, 15 SW, 16 PGND, 17 PGND, 18 PGND, 19 PGND, 20 SW, 21 PVDD, 22 PGND, 23 EXTVDD, 24 EN, 25 FREQ, 26 SS, 27 FB, 28 AGND, 29 PGND, 30 VDD, 31 SVIN, 32 PG, 33 PVIN, 34 SW, 35 PGND
text: MIC28516

## micro usb
designator USB?, comment MICRO 6.4JB  (value not drawn)
Manufacturer: SHOU HAN(首韩); Add into BOM: yes; Connector Type: Micro-B; Gender: 母; Number of Contacts: 5P; Number of Ports: 1; Current Rating - Power (Max): 1A; Connect-Disconnect Life: 1万次; Core Colour: 黑色; Symbol: MICRO 6.4JB; Device: MICRO 6.4JB; LCSC Part Name: Micro-B 母 卧贴; Supplier Part: C2681558; Manufacturer Part: MICRO 6.4JB; Supplier Footprint: SMD; JLCPCB Part Class: Extended Part; Datasheet: https://atta.szlcsc.com/upload/public/pdf/source/20210107/C2681558_CE87DAC76B0B6D6A8499512BD182790B.pdf; Supplier: LCSC; Convert to PCB: yes; Standard: USB 2.0; Mounting Style: 卧贴; Operating Temperature Range: -20℃~+65℃
footprint MICRO-USB-SMD_C2681558
pins: 1 VBUS, 2 D-, 3 D+, 4 ID, 5 GND, 6 EH

## MP2980
designator U?
BUCK-BOOST Controller
footprint QFN-32 4x4
pins: 1 SDA, 2 SCL, 3 INT, 4 IMON, 5 CSP, 6 CSN, 7 FS, 8 AVDD, 9 AGND, 10 NC, 11 COMP, 12 FB, 13 SS, 14 NC, 15 ILIM, 16 IAVGN, 17 IAVGP, 18 VOUT, 19 SW2, 20 HG2, 21 BST2, 22 LG2, 23 PGND, 24 VCC, 25 LG1, 26 BST1, 27 HG1, 28 SW1, 29 VIN, 30 EN, 31 VINREG, 33 PGND

## MP3416GJ-Z
designator U?, comment MP3416  (value not drawn)
Manufacturer: MPS(芯源); Symbol: MP3416GJ-Z; Add into BOM: yes; Function: 升压型; Input Voltage: 860mV~5.5V; Output Voltage: 1.8V~5.5V; Output Current: 1.1A; Synchronous Rectification: 是; Number of Outputs: 1; Topology: 升压式; Switch tube (built-in/external): 内置; Device: MP3416GJ-Z; LCSC Part Name: MP3416GJ-Z; Supplier Part: C5296924; Manufacturer Part: MP3416GJ-Z; Supplier Footprint: TSOT-23-8; JLCPCB Part Class: Extended Part; Datasheet: https://atta.szlcsc.com/upload/public/pdf/source/20240129/EB0CD8F9BC2F8342E0AF20A01EF4823F.pdf; Supplier: LCSC; Convert to PCB: yes; Operating Temperature: -40℃~+125℃@(TJ)
footprint TSOT-23-8_L3.0-W1.7-P0.65-LS2.8-BL
pins: 1 FB, 2 GND, 3 SW, 4 OUT, 5 IN, 6 EN, 7 LBI, 8 LBO

## MP3435GL-Z
designator U?, comment MP3435  (value not drawn)
Manufacturer: MPS(芯源); Symbol: MP3435GL-Z; Add into BOM: yes; Function: 升压型; Output Type: 可调; Input Voltage: 3V~20V; Output Voltage: 3V~22V; Output Current: 19A; Switching Frequency: 600kHz; Synchronous Rectification: 是; Number of Outputs: 1; Topology: 升压式; Switch tube (built-in/external): 内置; Device: MP3435GL-Z; LCSC Part Name: MP3435GL-Z; Supplier Part: C6910133; Manufacturer Part: MP3435GL-Z; Supplier Footprint: QFN-20(3x4); JLCPCB Part Class: Extended Part; Datasheet: https://atta.szlcsc.com/upload/public/pdf/source/20240130/7384AF986445C9AAC7DE117408629C04.pdf; Supplier: LCSC; Convert to PCB: yes; Operating Temperature: -40℃~+125℃@(TJ)
footprint QFN-20_L4.0-W3.0_MP3435GL-Z
pins: 1 OUT, 4 BST, 5 SOUT, 6 EN, 7 GATE, 8 SENSE, 9 SW, 10 PGND, 11 IN, 12 VDD, 13 COMP, 14 FB, 15 SS, 16 AGND

## MP6531
designator U?
FOC算法芯片
footprint QFN-28_L4.0-W4.0-P0.40-TL-EP2.6
pins: 1 VIN, 2 CPA, 3 CPB, 4 VREG, 5 BSTA, 6 SHA, 7 GHA, 8 GLA, 9 BSTB, 10 SHB, 11 GHB, 12 GLB, 13 BSTC, 14 SHC, 15 GHC, 16 GLC, 17 LSS, 18 HC, 19 HB, 20 HA, 21 LC, 22 LB, 23 LA, 24 nFAULT, 25 nSLEEP, 26 OC_REF, 27 DT, 28 GND, 29 GND

## MP6551GQB-Z
designator U?, comment MP6551  (value not drawn)
Manufacturer: MPS(芯源); Symbol: MP6551GQB-Z; Add into BOM: yes; Device: MP6551GQB-Z; LCSC Part Name: 5A 有刷直流电机驱动芯片 14V; Supplier Part: C3681210; Manufacturer Part: MP6551GQB-Z; Supplier Footprint: QFN-14(2.5x3); JLCPCB Part Class: Extended Part; Datasheet: https://atta.szlcsc.com/upload/public/pdf/source/20240315/87D2DCD0FE587502246AD273A573ED89.pdf; Supplier: LCSC; Convert to PCB: yes
footprint QFN-14_L3.0-W2.5-P0.50-TL_MP6551GQB-Z
pins: 1 OUT1, 2 VIN, 3 OUT2, 4 EN2, 5 IN2, 6 SR, 7 CM2, 9 GND, 11 CM1, 12 nFAULT, 13 IN1, 14 EN1

## MP6602
designator U?  (value not drawn)
步进电机驱动器MP6602
footprint QFN-25(4x5)
pins: 1 PGND (power), 2 AOUT1 (out), 3 VIN (power), 4 AOUT2 (out), 5 PGND (power), 6 SLEEP (in), 7 NRESET (in), 8 NFAULT (out), 9 ENBL (in), 10 GND (power), 11 VG, 12 VCP (out), 13 PGND (power), 14 BOUT2 (out), 15 VIN (power), 16 BOUT1 (out), 17 PGND (power), 18 DIR (in), 19 STEP (in), 20 MOSI (out), 21 VCC (power), 22 MISO (in), 23 CS, 24 CLK, 25 PGND (power)

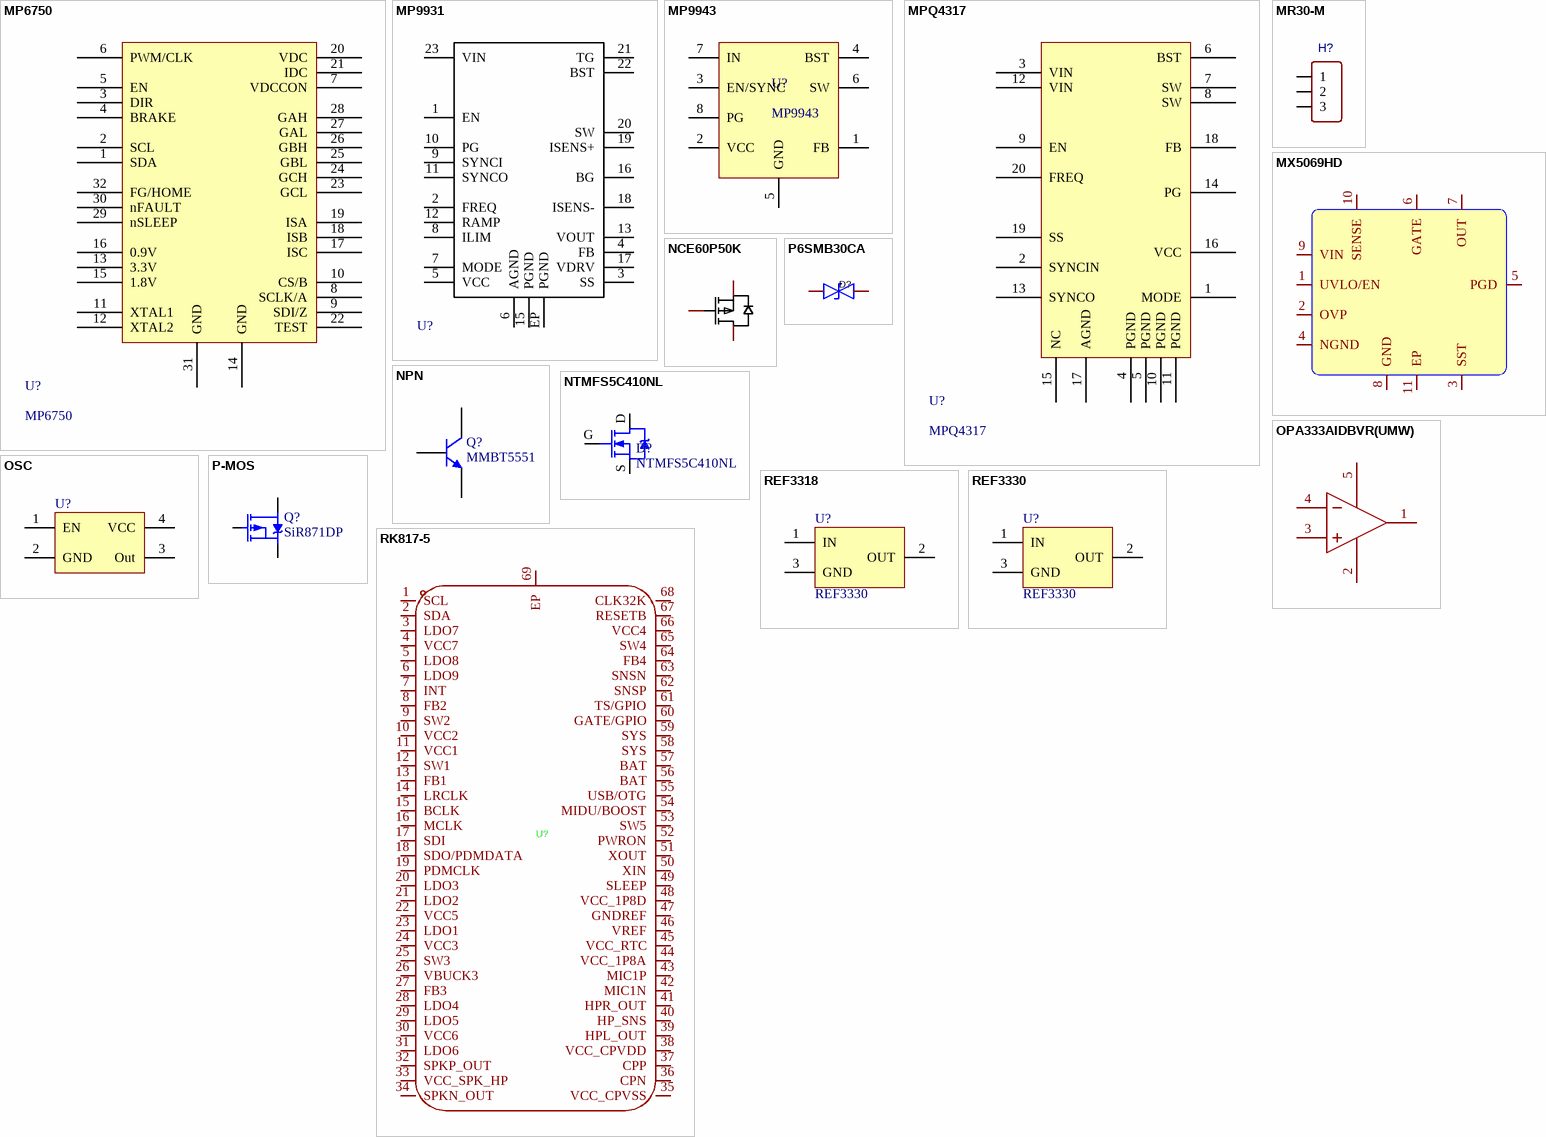
[diagram p6: symbols MP6750 to RK817-5]

## MP6750
designator U?
FOC算法芯片
footprint QFN-32 4x4
pins: 1 SDA, 2 SCL, 3 DIR, 4 BRAKE, 5 EN, 6 PWM/CLK, 7 VDCCON, 8 SCLK/A, 9 SDI/Z, 10 CS/B, 11 XTAL1, 12 XTAL2, 13 3.3V, 14 GND, 15 1.8V, 16 0.9V, 17 ISC, 18 ISB, 19 ISA, 20 VDC, 21 IDC, 22 TEST, 23 GCL, 24 GCH, 25 GBL, 26 GBH, 27 GAL, 28 GAH, 29 nSLEEP, 30 nFAULT, 31 GND, 32 FG/HOME

## MP9931
designator U?  (value not drawn)
100V BUCK Controller
footprint QFN-23(4x4)
pins: 1 EN, 2 FREQ, 3 SS, 4 FB, 5 VCC, 6 AGND, 7 MODE, 8 ILIM, 9 SYNCI, 10 PG, 11 SYNCO, 12 RAMP, 13 VOUT, 15 PGND, 16 BG, 17 VDRV, 18 ISENS-, 19 ISENS+, 20 SW, 21 TG, 22 BST, 23 VIN, EP PGND

## MP9943
designator U?
BUCK Convertor 3A
footprint QFN-8 3x3
pins: 1 FB, 2 VCC, 3 EN/SYNC, 4 BST, 5 GND, 6 SW, 7 IN, 8 PG

## MPQ4317
designator U?
BUCK Convertor 7A
footprint QFN-20 4x4mm
pins: 1 MODE, 2 SYNCIN, 3 VIN, 4 PGND, 5 PGND, 6 BST, 7 SW, 8 SW, 9 EN, 10 PGND, 11 PGND, 12 VIN, 13 SYNCO, 14 PG, 15 NC, 16 VCC, 17 AGND, 18 FB, 19 SS, 20 FREQ

## MR30-M
designator H?  (value not drawn)
BOM_Manufacturer: AMASS(艾迈斯); Contributor: LCEDA_Lib; BOM_Supplier Part: C99873; BOM_Supplier: LCSC; BOM_Manufacturer Part: MR30-M; spicePre: H; spiceSymbolName: HDR-F-2.54_1x3
footprint MR30
pins: 1, 2, 3

## MX5069HD
designator U?  (value not drawn)
Manufacturer: Wuxi Maxinmicro(无锡明芯微); Add into BOM: yes; Symbol: MX5069HD; Device: MX5069HD; LCSC Part Name: 耐负压高边开关; Supplier Part: C20882981; Manufacturer Part: MX5069HD; Supplier Footprint: DFN-10L(3x3); JLCPCB Part Class: Extended Part; Datasheet: https://atta.szlcsc.com/upload/public/pdf/source/20240301/1A26D34E4AE9D9883961EE5917F439E6.pdf; Supplier: LCSC; Convert to PCB: yes
footprint WDFN-10L_L3.0-W3.0-P0.50-BL-EP
3D model WDFN-10_L3.0-W3.0-H0.8-P0.50
pins: 1 UVLO/EN, 2 OVP, 3 SST, 4 NGND, 5 PGD, 6 GATE, 7 OUT, 8 GND, 9 VIN, 10 SENSE, 11 EP

## NCE60P50K
designator Q?  (value not drawn)
P沟道功率MOS管; Manufacturer: NCE(无锡新洁能); Add into BOM: yes; Type: 1个P沟道; Drain Source Voltage (Vdss): 60V; Continuous Drain Current (Id): 50A; Power Dissipation (Pd): 95W; Drain Source On Resistance (RDS(on)@Vgs,Id): 23mΩ@10V,20A; Gate Threshold Voltage (Vgs(th)@Id): 3.5V@250uA; Symbol: NCE60P50K; Device: NCE60P50K; LCSC Part Name: 1个P沟道 耐压:60V 电流:50A; Supplier Part: C130104; Manufacturer Part: NCE60P50K; Supplier Footprint: TO-252-2(DPAK); JLCPCB Part Class: Extended Part; Datasheet: https://atta.szlcsc.com/upload/public/pdf/source/20170919/C130104_1505787180031976877.pdf; Supplier: LCSC; Convert to PCB: yes
footprint TO-252-2_L6.6-W6.1-P4.57-LS9.9-TL-CW
pins: 1 G, 2 D, 3 S

## NPN
designator Q?, comment MMBT5551
NPN三极管; Published: 8-Jun-2000; LatestRevisionDate: 17-Jul-2002; LatestRevisionNote: Re-released for DXP Platform.; PackageReference: TO-226-AA; Publisher: Altium Limited; PackageDescription: TO, Flat Index; 3 In-Line, Axial Leads; Body Dia. 4.8mm; Leads 0.55 x 0.51 mm (max); Code_JEDEC: TO-226-AA
footprint SOT23-3N (3x1.3x1mm(长宽高)); pin to pad 1>3 2>1 3>2
pins: 1 C, 2 B, 3 E

## NTMFS5C410NL
designator D?
N沟道MOS管; Note: Pin 2 is electrically connected to pin 4.; Published: 8-Jun-2000; LatestRevisionDate: 17-Jul-2002; LatestRevisionNote: Re-released for DXP Platform.; DatasheetVersion: PD-9.814; PackageVersion: Feb-1997; PackageReference: TO-220AB; Publisher: Altium Limited; PackageDescription: TO, Thru-Hole, Vertical, Heatsink Mounted; 3 In-Line Leads; Pitch 2.54 mm; ComponentLink1Description: Manufacturer Link; ComponentLink1URL: http://www.irf.com/
footprint DFN-5_L6.1-W5.1-P1.27-BL
pins: D, G, S

## OPA333AIDBVR(UMW)
designator U?  (value not drawn)
Manufacturer: UMW(友台半导体); Add into BOM: yes; Symbol: OPA333AIDBVR(UMW); Device: OPA333AIDBVR(UMW); LCSC Part Name: 1.8V 微功耗 CMOS 运算放大器零漂移系列; Supplier Part: C22365310; Manufacturer Part: OPA333AIDBVR(UMW); Supplier Footprint: SOT-23-5; JLCPCB Part Class: Extended Part; Datasheet: https://atta.szlcsc.com/upload/public/pdf/source/20241113/ECF442C5A17C38EF29241620AB879E4A.pdf; Supplier: LCSC; Convert to PCB: yes
footprint SOT-23-5_L3.0-W1.7-P0.95-LS2.8-BR
pins: 1 OUT, 2 V-, 3 +IN, 4 -IN, 5 V+

## OSC
designator U?, comment XTAL S3225 12M 20pF  (value not drawn)
12M晶振
footprint XTAL-3225
footprint 3225-XTAL
pins: 1 EN, 2 GND, 3 Out, 4 VCC

## P6SMB30CA
designator D?  (value not drawn)
28V 双向TVS; Manufacturer: Littelfuse(美国力特); Device: P6SMB30CA_C80384; Add into BOM: yes; Reverse Stand-Off Voltage (Vrwm): 25.6V; Maximum Clamping Voltage: 41.4V; Peak Pulse Current (Ipp)@10/1000us: 14.7A; Peak Pulse Power Dissipation (Ppp)@10/1000us: 600W; Breakdown Voltage: 28.5V; Type: TVS; Symbol: P6SMB30CA; LCSC Part Name: P6SMB30CA; Supplier Part: C80384; Manufacturer Part: P6SMB30CA; Supplier Footprint: SMB(DO-214AA); JLCPCB Part Class: Extended Part; Datasheet: https://atta.szlcsc.com/upload/public/pdf/source/20170919/C130399_1505787216040976929.pdf; Supplier: LCSC; Convert to PCB: yes
footprint SMB_L4.6-W3.6-LS5.3-BI
pins: 1 K, 2 A

## P-MOS
designator Q?, comment SiR871DP
P沟道MOS管
footprint PG-TDSON-8 - duplicate
pins: D, G, S

## REF3318
designator U?, comment REF3330
1.8V电压参考源
footprint SOT23-3N (3x1.3x1mm(长宽高))
pins: 1 IN, 2 OUT, 3 GND

## REF3330
designator U?
3V电压参考源
footprint SOT23-3N (3x1.3x1mm(长宽高))
footprint SOT23-3N (3x1.3x1mm(长宽高))
pins: 1 IN, 2 OUT, 3 GND

## RK817-5
designator U?  (value not drawn)
专业电源管理; Manufacturer: Rockchip(瑞芯微); Add into BOM: yes; Symbol: RK817-5; Device: RK817-5; LCSC Part Name: RK817-5; Supplier Part: C5179490; Manufacturer Part: RK817-5; Supplier Footprint: QFN-68(7x7); JLCPCB Part Class: Extended Part; Datasheet: https://atta.szlcsc.com/upload/public/pdf/source/20240126/1D84E9BEA212072F9DD3BF1F36FC3510.pdf; Supplier: LCSC; Convert to PCB: yes
footprint QFN-68_L7.0-W7.0-P0.35-BL-EP5.5
3D model QFN-68_L7.0-W7.0-H0.8-P0.35-BL-EP5.5
pins: 1 SCL, 2 SDA, 3 LDO7, 4 VCC7, 5 LDO8, 6 LDO9, 7 INT, 8 FB2, 9 SW2, 10 VCC2, 11 VCC1, 12 SW1, 13 FB1, 14 LRCLK, 15 BCLK, 16 MCLK, 17 SDI, 18 SDO/PDMDATA, 19 PDMCLK, 20 LDO3, 21 LDO2, 22 VCC5, 23 LDO1, 24 VCC3, 25 SW3, 26 VBUCK3, 27 FB3, 28 LDO4, 29 LDO5, 30 VCC6, 31 LDO6, 32 SPKP_OUT, 33 VCC_SPK_HP, 34 SPKN_OUT, 35 VCC_CPVSS, 36 CPN, 37 CPP, 38 VCC_CPVDD, 39 HPL_OUT, 40 HP_SNS, 41 HPR_OUT, 42 MIC1N, 43 MIC1P, 44 VCC_1P8A, 45 VCC_RTC, 46 VREF, 47 GNDREF, 48 VCC_1P8D, 49 SLEEP, 50 XIN, 51 XOUT, 52 PWRON, 53 SW5, 54 MIDU/BOOST, 55 USB/OTG, 56 BAT, 57 BAT, 58 SYS, 59 SYS, 60 GATE/GPIO, 61 TS/GPIO, 62 SNSP, 63 SNSN, 64 FB4, 65 SW4, 66 VCC4, 67 RESETB, 68 CLK32K, 69 EP

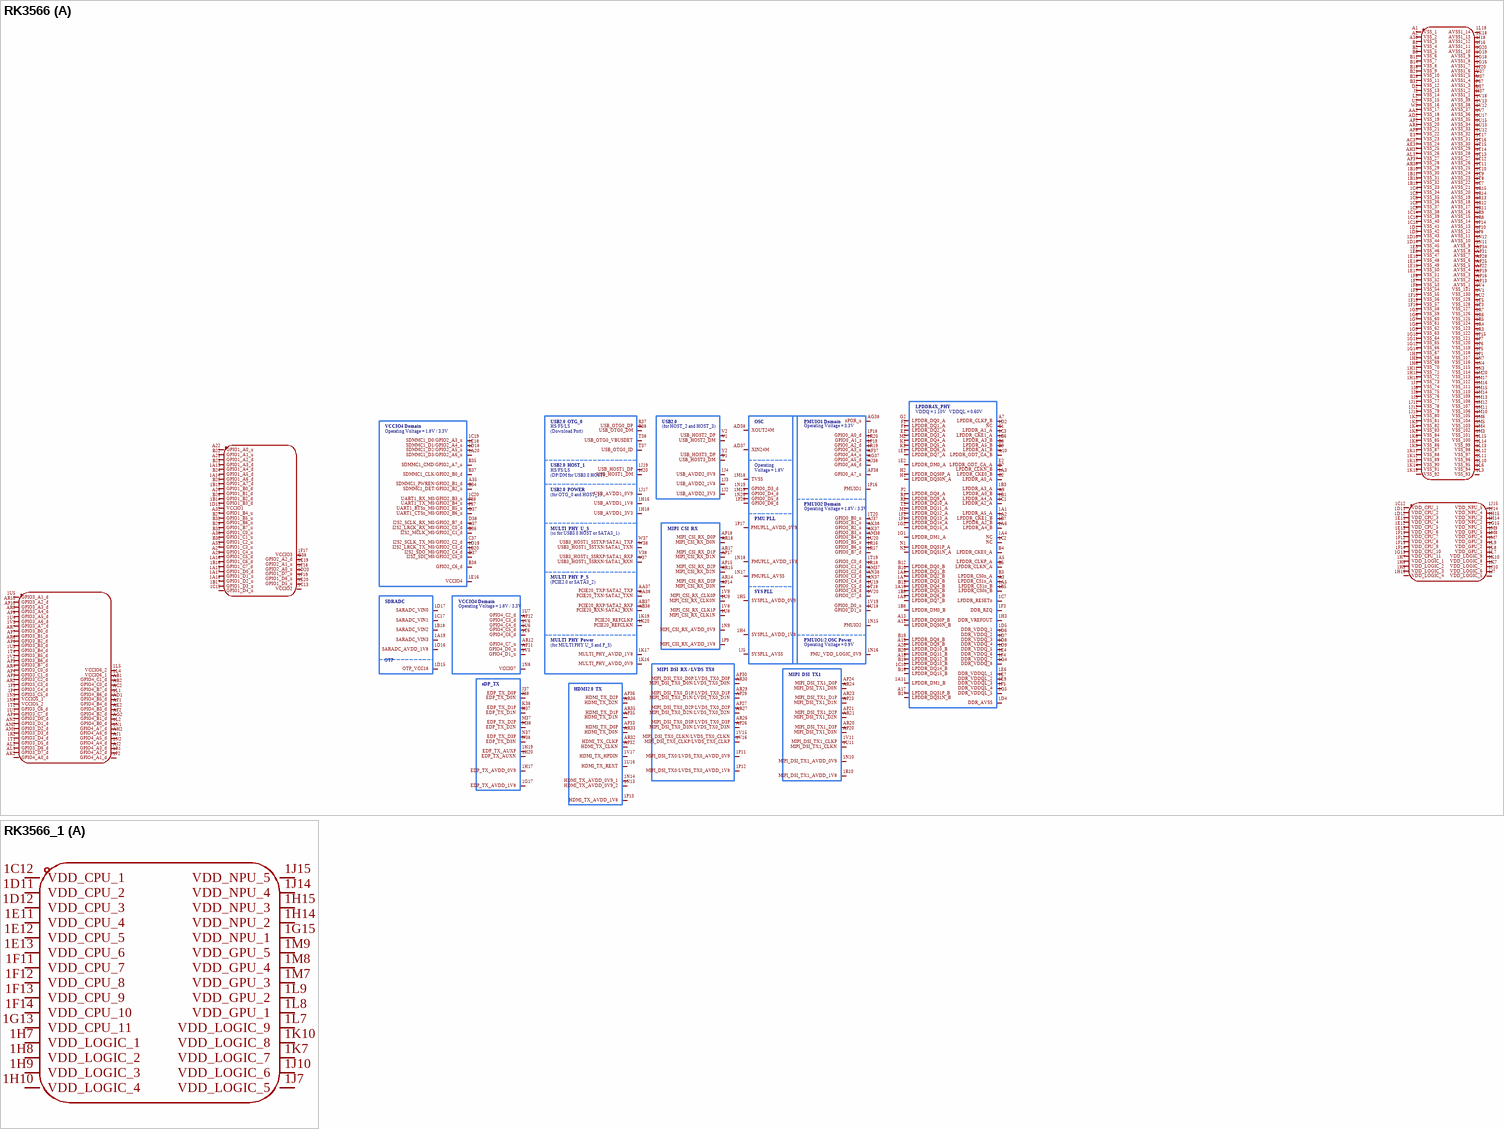
[diagram p7: symbols RK3566 to RK3566_1]